# Altium integrated library Renesas Microcontroller H8S.IntLib: 670 symbols (part 63 of 70)
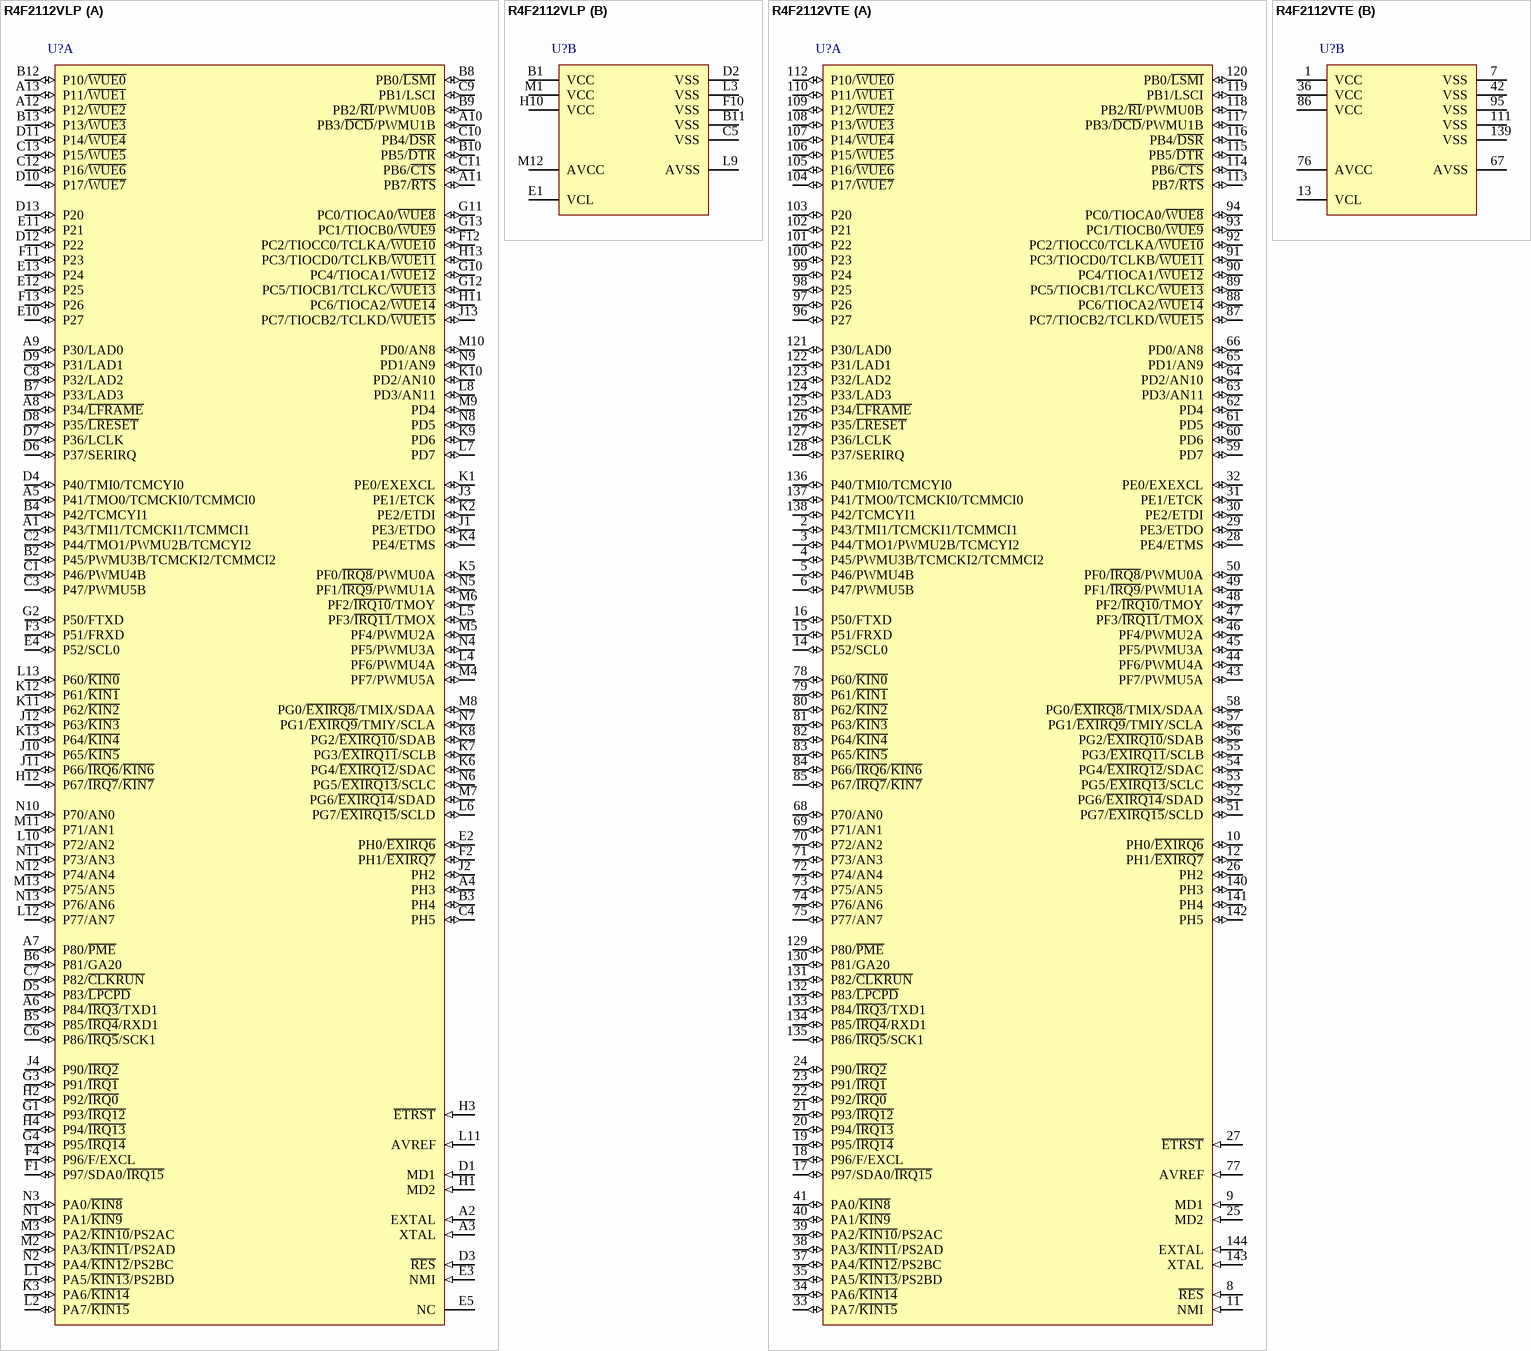
[diagram p276: symbols R4F2112VLP to R4F2112VTE]

## R4F2112VTE
designator U?
Flash memory H8S/2100 Series, 2112 Group MCU, 96K ROM, 4K RAM, TFP-144V Pkg; Published: 28-Aug-2009; DatasheetVersion: Rev.2.00, Sep-2009; PackageVersion: Sep-2005; PackageReference: PTQP0144LC-A; Publisher: Altium Limited; PackageDescription: 144-Pin Plastic Thin Quad Flat Pack, 16 x 16 mm Body, 0.4 mm Pitch; Code_JEITA: P-TQFP144-16x16-0.40; ComponentLink1Description: Manufacturer Link; ComponentLink1URL: http://sg.renesas.com/fmwk.jsp?cnt=h8s_family_landing.jsp&fp=/products/mpumcu/h8s_family/; ComponentLink2Description: Datasheet; ComponentLink2URL: http://documentation.renesas.com/eng/products/mpumcu/rej09b0451_h8s2112hm.pdf; ComponentLink3Description: Packaging Specification; ComponentLink3URL: http://sg.renesas.com/media/products/common_info/package/pdf/ic/code/ptqp0144lc_a.pdf
footprint PTQP0144LC-A_N (Thin QFP, 144-Leads, Body 16x16mm, Pitch 0.4mm, IPC Medium Density)
footprint PTQP0144LC-A_L (Thin QFP, 144-Leads, Body 16x16mm, Pitch 0.4mm, IPC High Density)
footprint PTQP0144LC-A_M (Thin QFP, 144-Leads, Body 16x16mm, Pitch 0.4mm, IPC Low Density)
part A pins: 2 P43/TMI1/TCMCKI1/TCMMCI1 (io), 3 P44/TMO1/PWMU2B/TCMCYI2 (io), 4 P45/PWMU3B/TCMCKI2/TCMMCI2 (io), 5 P46/PWMU4B (io), 6 P47/PWMU5B (io), 8 ~{RES} (in), 9 MD1 (in), 10 PH0/~{EXIRQ6} (io), 11 NMI (in), 12 PH1/~{EXIRQ7} (io), 14 P52/SCL0 (io), 15 P51/FRXD (io), 16 P50/FTXD (io), 17 P97/SDA0/~{IRQ15} (io), 18 P96/F/EXCL (io), 19 P95/~{IRQ14} (io), 20 P94/~{IRQ13} (io), 21 P93/~{IRQ12} (io), 22 P92/~{IRQ0} (io), 23 P91/~{IRQ1} (io), 24 P90/~{IRQ2} (io), 25 MD2 (in), 26 PH2 (io), 27 ~{ETRST} (in), 28 PE4/ETMS (io), 29 PE3/ETDO (io), 30 PE2/ETDI (io), 31 PE1/ETCK (io), 32 PE0/EXEXCL (io), 33 PA7/~{KIN15} (io), 34 PA6/~{KIN14} (io), 35 PA5/~{KIN13}/PS2BD (io), 37 PA4/~{KIN12}/PS2BC (io), 38 PA3/~{KIN11}/PS2AD (io), 39 PA2/~{KIN10}/PS2AC (io), 40 PA1/~{KIN9} (io), 41 PA0/~{KIN8} (io), 43 PF7/PWMU5A (io), 44 PF6/PWMU4A (io), 45 PF5/PWMU3A (io), 46 PF4/PWMU2A (io), 47 PF3/~{IRQ11}/TMOX (io), 48 PF2/~{IRQ10}/TMOY (io), 49 PF1/~{IRQ9}/PWMU1A (io), 50 PF0/~{IRQ8}/PWMU0A (io), 51 PG7/~{EXIRQ15}/SCLD (io), 52 PG6/~{EXIRQ14}/SDAD (io), 53 PG5/~{EXIRQ13}/SCLC (io), 54 PG4/~{EXIRQ12}/SDAC (io), 55 PG3/~{EXIRQ11}/SCLB (io), 56 PG2/~{EXIRQ10}/SDAB (io), 57 PG1/~{EXIRQ9}/TMIY/SCLA (io), 58 PG0/~{EXIRQ8}/TMIX/SDAA (io), 59 PD7 (io), 60 PD6 (io), 61 PD5 (io), 62 PD4 (io), 63 PD3/AN11 (io), 64 PD2/AN10 (io), 65 PD1/AN9 (io), 66 PD0/AN8 (io), 68 P70/AN0 (io), 69 P71/AN1 (io), 70 P72/AN2 (io), 71 P73/AN3 (io), 72 P74/AN4 (io), 73 P75/AN5 (io), 74 P76/AN6 (io), 75 P77/AN7 (io), 77 AVREF (in), 78 P60/~{KIN0} (io), 79 P61/~{KIN1} (io), 80 P62/~{KIN2} (io), 81 P63/~{KIN3} (io), 82 P64/~{KIN4} (io), 83 P65/~{KIN5} (io), 84 P66/~{IRQ6}/~{KIN6} (io), 85 P67/~{IRQ7}/~{KIN7} (io), 87 PC7/TIOCB2/TCLKD/~{WUE15} (io), 88 PC6/TIOCA2/~{WUE14} (io), 89 PC5/TIOCB1/TCLKC/~{WUE13} (io), 90 PC4/TIOCA1/~{WUE12} (io), 91 PC3/TIOCD0/TCLKB/~{WUE11} (io), 92 PC2/TIOCC0/TCLKA/~{WUE10} (io), 93 PC1/TIOCB0/~{WUE9} (io), 94 PC0/TIOCA0/~{WUE8} (io), 96 P27 (io), 97 P26 (io), 98 P25 (io), 99 P24 (io), 100 P23 (io), 101 P22 (io), 102 P21 (io), 103 P20 (io), 104 P17/~{WUE7} (io), 105 P16/~{WUE6} (io), 106 P15/~{WUE5} (io), 107 P14/~{WUE4} (io), 108 P13/~{WUE3} (io), 109 P12/~{WUE2} (io), 110 P11/~{WUE1} (io), 112 P10/~{WUE0} (io), 113 PB7/~{RTS} (io), 114 PB6/~{CTS} (io), 115 PB5/~{DTR} (io), 116 PB4/~{DSR} (io), 117 PB3/~{DCD}/PWMU1B (io), 118 PB2/~{RI}/PWMU0B (io), 119 PB1/LSCI (io), 120 PB0/~{LSMI} (io), 121 P30/LAD0 (io), 122 P31/LAD1 (io), 123 P32/LAD2 (io), 124 P33/LAD3 (io), 125 P34/~{LFRAME} (io), 126 P35/~{LRESET} (io), 127 P36/LCLK (io), 128 P37/SERIRQ (io), 129 P80/~{PME} (io), 130 P81/GA20 (io), 131 P82/~{CLKRUN} (io), 132 P83/~{LPCPD} (io), 133 P84/~{IRQ3}/TXD1 (io), 134 P85/~{IRQ4}/RXD1 (io), 135 P86/~{IRQ5}/SCK1 (io), 136 P40/TMI0/TCMCYI0 (io), 137 P41/TMO0/TCMCKI0/TCMMCI0 (io), 138 P42/TCMCYI1 (io), 140 PH3 (io), 141 PH4 (io), 142 PH5 (io), 143 XTAL (in), 144 EXTAL (in)
part B pins: 1 VCC (power), 7 VSS (power), 13 VCL, 36 VCC (power), 42 VSS (power), 67 AVSS (power), 76 AVCC (power), 86 VCC (power), 95 VSS (power), 111 VSS (power), 139 VSS (power)

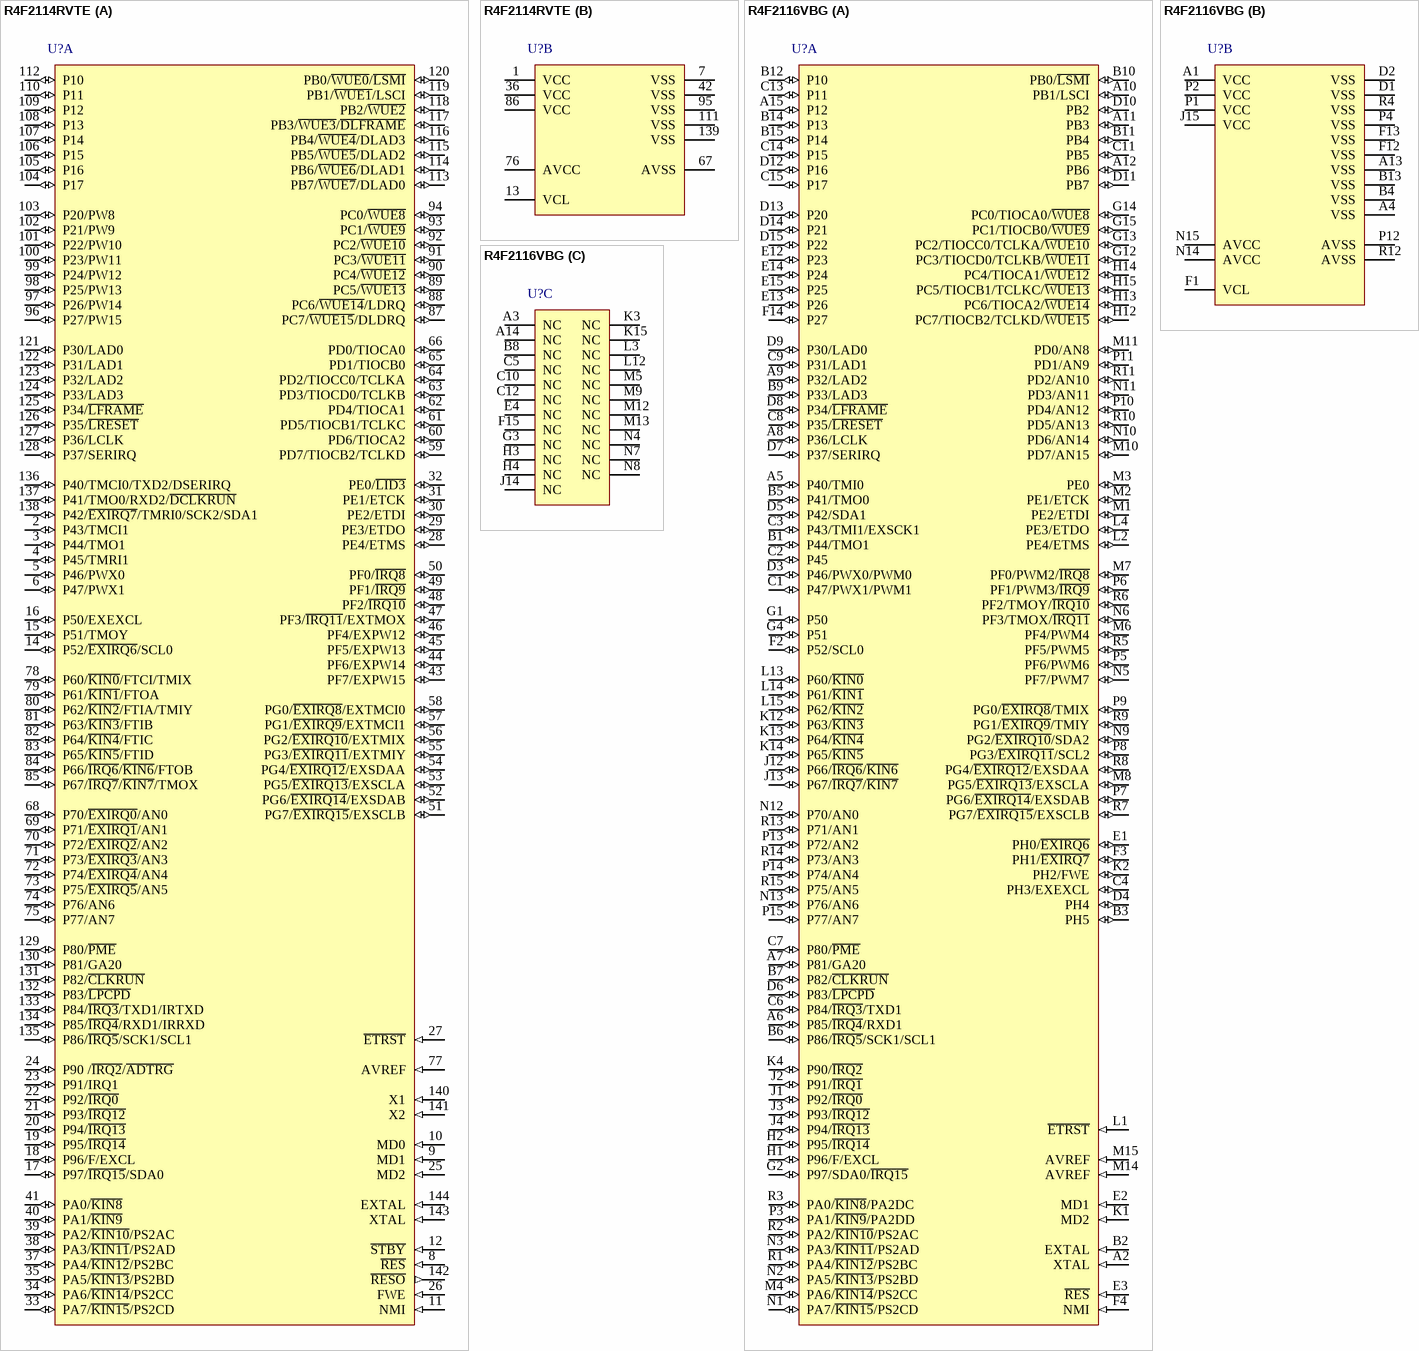
[diagram p217: symbols R4F2114RVTE to R4F2116VBG]

## R4F2114RVTE
designator U?
Flash memory H8S/2100 Series, 2114R Group MCU, 1M ROM, 8K RAM, TFP-144 Pkg; Published: 28-Aug-2009; DatasheetVersion: Rev.3.00, Jul-2005; PackageVersion: Sep-2005; PackageReference: PTQP0144LC-A; Publisher: Altium Limited; PackageDescription: 144-Pin Plastic Thin Quad Flat Pack, 16 x 16 mm Body, 0.4 mm Pitch; Code_JEITA: P-TQFP144-16x16-0.40; ComponentLink1Description: Manufacturer Link; ComponentLink1URL: http://sg.renesas.com/fmwk.jsp?cnt=h8s_family_landing.jsp&fp=/products/mpumcu/h8s_family/; ComponentLink2Description: Datasheet; ComponentLink2URL: http://documentation.renesas.com/eng/products/mpumcu/rej09b0098_h8s2114f.pdf; ComponentLink3Description: Packaging Specification; ComponentLink3URL: http://sg.renesas.com/media/products/common_info/package/pdf/ic/code/ptqp0144lc_a.pdf
footprint PTQP0144LC-A_N (Thin QFP, 144-Leads, Body 16x16mm, Pitch 0.4mm, IPC Medium Density)
footprint PTQP0144LC-A_L (Thin QFP, 144-Leads, Body 16x16mm, Pitch 0.4mm, IPC High Density)
footprint PTQP0144LC-A_M (Thin QFP, 144-Leads, Body 16x16mm, Pitch 0.4mm, IPC Low Density)
part A pins: 2 P43/TMCI1 (io), 3 P44/TMO1 (io), 4 P45/TMRI1 (io), 5 P46/PWX0 (io), 6 P47/PWX1 (io), 8 ~{RES} (in), 9 MD1 (in), 10 MD0 (in), 11 NMI (in), 12 ~{STBY} (in), 14 P52/~{EXIRQ6}/SCL0 (io), 15 P51/TMOY (io), 16 P50/EXEXCL (io), 17 P97/~{IRQ15}/SDA0 (io), 18 P96/F/EXCL (io), 19 P95/~{IRQ14} (io), 20 P94/~{IRQ13} (io), 21 P93/~{IRQ12} (io), 22 P92/~{IRQ0} (io), 23 P91/IRQ1 (io), 24 P90 /~{IRQ2}/~{ADTRG} (io), 25 MD2 (in), 26 FWE (in), 27 ~{ETRST} (in), 28 PE4/ETMS (io), 29 PE3/ETDO (io), 30 PE2/ETDI (io), 31 PE1/ETCK (io), 32 PE0/~{LID3} (io), 33 PA7/~{KIN15}/PS2CD (io), 34 PA6/~{KIN14}/PS2CC (io), 35 PA5/~{KIN13}/PS2BD (io), 37 PA4/~{KIN12}/PS2BC (io), 38 PA3/~{KIN11}/PS2AD (io), 39 PA2/~{KIN10}/PS2AC (io), 40 PA1/~{KIN9} (io), 41 PA0/~{KIN8} (io), 43 PF7/EXPW15 (io), 44 PF6/EXPW14 (io), 45 PF5/EXPW13 (io), 46 PF4/EXPW12 (io), 47 PF3/~{IRQ11}/EXTMOX (io), 48 PF2/~{IRQ10} (io), 49 PF1/~{IRQ9} (io), 50 PF0/~{IRQ8} (io), 51 PG7/~{EXIRQ15}/EXSCLB (io), 52 PG6/~{EXIRQ14}/EXSDAB (io), 53 PG5/~{EXIRQ13}/EXSCLA (io), 54 PG4/~{EXIRQ12}/EXSDAA (io), 55 PG3/~{EXIRQ11}/EXTMIY (io), 56 PG2/~{EXIRQ10}/EXTMIX (io), 57 PG1/~{EXIRQ9}/EXTMCI1 (io), 58 PG0/~{EXIRQ8}/EXTMCI0 (io), 59 PD7/TIOCB2/TCLKD (io), 60 PD6/TIOCA2 (io), 61 PD5/TIOCB1/TCLKC (io), 62 PD4/TIOCA1 (io), 63 PD3/TIOCD0/TCLKB (io), 64 PD2/TIOCC0/TCLKA (io), 65 PD1/TIOCB0 (io), 66 PD0/TIOCA0 (io), 68 P70/~{EXIRQ0}/AN0 (io), 69 P71/~{EXIRQ1}/AN1 (io), 70 P72/~{EXIRQ2}/AN2 (io), 71 P73/~{EXIRQ3}/AN3 (io), 72 P74/~{EXIRQ4}/AN4 (io), 73 P75/~{EXIRQ5}/AN5 (io), 74 P76/AN6 (io), 75 P77/AN7 (io), 77 AVREF (in), 78 P60/~{KIN0}/FTCI/TMIX (io), 79 P61/~{KIN1}/FTOA (io), 80 P62/~{KIN2}/FTIA/TMIY (io), 81 P63/~{KIN3}/FTIB (io), 82 P64/~{KIN4}/FTIC (io), 83 P65/~{KIN5}/FTID (io), 84 P66/~{IRQ6}/~{KIN6}/FTOB (io), 85 P67/~{IRQ7}/~{KIN7}/TMOX (io), 87 PC7/~{WUE15}/DLDRQ (io), 88 PC6/~{WUE14}/LDRQ (io), 89 PC5/~{WUE13} (io), 90 PC4/~{WUE12} (io), 91 PC3/~{WUE11} (io), 92 PC2/~{WUE10} (io), 93 PC1/~{WUE9} (io), 94 PC0/~{WUE8} (io), 96 P27/PW15 (io), 97 P26/PW14 (io), 98 P25/PW13 (io), 99 P24/PW12 (io), 100 P23/PW11 (io), 101 P22/PW10 (io), 102 P21/PW9 (io), 103 P20/PW8 (io), 104 P17 (io), 105 P16 (io), 106 P15 (io), 107 P14 (io), 108 P13 (io), 109 P12 (io), 110 P11 (io), 112 P10 (io), 113 PB7/~{WUE7}/DLAD0 (io), 114 PB6/~{WUE6}/DLAD1 (io), 115 PB5/~{WUE5}/DLAD2 (io), 116 PB4/~{WUE4}/DLAD3 (io), 117 PB3/~{WUE3}/~{DLFRAME} (io), 118 PB2/~{WUE2} (io), 119 PB1/~{WUE1}/LSCI (io), 120 PB0/~{WUE0}/~{LSMI} (io), 121 P30/LAD0 (io), 122 P31/LAD1 (io), 123 P32/LAD2 (io), 124 P33/LAD3 (io), 125 P34/~{LFRAME} (io), 126 P35/~{LRESET} (io), 127 P36/LCLK (io), 128 P37/SERIRQ (io), 129 P80/~{PME} (io), 130 P81/GA20 (io), 131 P82/~{CLKRUN} (io), 132 P83/~{LPCPD} (io), 133 P84/~{IRQ3}/TXD1/IRTXD (io), 134 P85/~{IRQ4}/RXD1/IRRXD (io), 135 P86/~{IRQ5}/SCK1/SCL1 (io), 136 P40/TMCI0/TXD2/DSERIRQ (io), 137 P41/TMO0/RXD2/~{DCLKRUN} (io), 138 P42/~{EXIRQ7}/TMRI0/SCK2/SDA1 (io), 140 X1 (in), 141 X2 (in), 142 ~{RESO} (out), 143 XTAL (in), 144 EXTAL (in)
part B pins: 1 VCC (power), 7 VSS (power), 13 VCL, 36 VCC (power), 42 VSS (power), 67 AVSS (power), 76 AVCC (power), 86 VCC (power), 95 VSS (power), 111 VSS (power), 139 VSS (power)

## R4F2116VBG
designator U?
Flash memory H8S/2100 Series, 2116 Group MCU, 128K ROM, 8K RAM, BP-176V Pkg; Published: 28-Aug-2009; DatasheetVersion: Rev.1.00, Mar-2006; PackageVersion: Apr-2006; PackageReference: PLBG0176GA-A; Publisher: Altium Limited; PackageDescription: 176-Ball Plastic Low Profile Fine-Pitch BGA, 13 x 13 mm Body, 0.8 mm Pitch; Code_JEITA: P-LFBGA176-13x13-0.80; ComponentLink1Description: Manufacturer Link; ComponentLink1URL: http://sg.renesas.com/fmwk.jsp?cnt=h8s_family_landing.jsp&fp=/products/mpumcu/h8s_family/; ComponentLink2Description: Datasheet; ComponentLink2URL: http://documentation.renesas.com/eng/products/mpumcu/rej09b0255_h8s2116hm.pdf; ComponentLink3Description: Packaging Specification; ComponentLink3URL: http://sg.renesas.com/media/products/common_info/package/pdf/ic/code/plbg0176ga_a.pdf
footprint PLBG0176GA-A (BGA, 176-Leads, Body 13x13mm, Pitch 0.8mm)
part A pins: A2 XTAL (in), A5 P40/TMI0 (io), A6 P85/~{IRQ4}/RXD1 (io), A7 P81/GA20 (io), A8 P36/LCLK (io), A9 P32/LAD2 (io), A10 PB1/LSCI (io), A11 PB3 (io), A12 PB6 (io), A15 P12 (io), B1 P44/TMO1 (io), B2 EXTAL (in), B3 PH5 (io), B5 P41/TMO0 (io), B6 P86/~{IRQ5}/SCK1/SCL1 (io), B7 P82/~{CLKRUN} (io), B9 P33/LAD3 (io), B10 PB0/~{LSMI} (io), B11 PB4 (io), B12 P10 (io), B14 P13 (io), B15 P14 (io), C1 P47/PWX1/PWM1 (io), C2 P45 (io), C3 P43/TMI1/EXSCK1 (io), C4 PH3/EXEXCL (io), C6 P84/~{IRQ3}/TXD1 (io), C7 P80/~{PME} (io), C8 P35/~{LRESET} (io), C9 P31/LAD1 (io), C11 PB5 (io), C13 P11 (io), C14 P15 (io), C15 P17 (io), D3 P46/PWX0/PWM0 (io), D4 PH4 (io), D5 P42/SDA1 (io), D6 P83/~{LPCPD} (io), D7 P37/SERIRQ (io), D8 P34/~{LFRAME} (io), D9 P30/LAD0 (io), D10 PB2 (io), D11 PB7 (io), D12 P16 (io), D13 P20 (io), D14 P21 (io), D15 P22 (io), E1 PH0/~{EXIRQ6} (io), E2 MD1 (in), E3 ~{RES} (in), E12 P23 (io), E13 P26 (io), E14 P24 (io), E15 P25 (io), F2 P52/SCL0 (io), F3 PH1/~{EXIRQ7} (io), F4 NMI (in), F14 P27 (io), G1 P50 (io), G2 P97/SDA0/~{IRQ15} (io), G4 P51 (io), G12 PC3/TIOCD0/TCLKB/~{WUE11} (io), G13 PC2/TIOCC0/TCLKA/~{WUE10} (io), G14 PC0/TIOCA0/~{WUE8} (io), G15 PC1/TIOCB0/~{WUE9} (io), H1 P96/F/EXCL (io), H2 P95/~{IRQ14} (io), H12 PC7/TIOCB2/TCLKD/~{WUE15} (io), H13 PC6/TIOCA2/~{WUE14} (io), H14 PC4/TIOCA1/~{WUE12} (io), H15 PC5/TIOCB1/TCLKC/~{WUE13} (io), J1 P92/~{IRQ0} (io), J2 P91/~{IRQ1} (io), J3 P93/~{IRQ12} (io), J4 P94/~{IRQ13} (io), J12 P66/~{IRQ6}/~{KIN6} (io), J13 P67/~{IRQ7}/~{KIN7} (io), K1 MD2 (in), K2 PH2/FWE (io), K4 P90/~{IRQ2} (io), K12 P63/~{KIN3} (io), K13 P64/~{KIN4} (io), K14 P65/~{KIN5} (io), L1 ~{ETRST} (in), L2 PE4/ETMS (io), L4 PE3/ETDO (io), L13 P60/~{KIN0} (io), L14 P61/~{KIN1} (io), L15 P62/~{KIN2} (io), M1 PE2/ETDI (io), M2 PE1/ETCK (io), M3 PE0 (io), M4 PA6/~{KIN14}/PS2CC (io), M6 PF4/PWM4 (io), M7 PF0/PWM2/~{IRQ8} (io), M8 PG5/~{EXIRQ13}/EXSCLA (io), M10 PD7/AN15 (io), M11 PD0/AN8 (io), M14 AVREF (in), M15 AVREF (in), N1 PA7/~{KIN15}/PS2CD (io), N2 PA5/~{KIN13}/PS2BD (io), N3 PA3/~{KIN11}/PS2AD (io), N5 PF7/PWM7 (io), N6 PF3/TMOX/~{IRQ11} (io), N9 PG2/~{EXIRQ10}/SDA2 (io), N10 PD6/AN14 (io), N11 PD3/AN11 (io), N12 P70/AN0 (io), N13 P76/AN6 (io), P3 PA1/~{KIN9}/PA2DD (io), P5 PF6/PWM6 (io), P6 PF1/PWM3/~{IRQ9} (io), P7 PG6/~{EXIRQ14}/EXSDAB (io), P8 PG3/~{EXIRQ11}/SCL2 (io), P9 PG0/~{EXIRQ8}/TMIX (io), P10 PD4/AN12 (io), P11 PD1/AN9 (io), P13 P72/AN2 (io), P14 P74/AN4 (io), P15 P77/AN7 (io), R1 PA4/~{KIN12}/PS2BC (io), R2 PA2/~{KIN10}/PS2AC (io), R3 PA0/~{KIN8}/PA2DC (io), R5 PF5/PWM5 (io), R6 PF2/TMOY/~{IRQ10} (io), R7 PG7/~{EXIRQ15}/EXSCLB (io), R8 PG4/~{EXIRQ12}/EXSDAA (io), R9 PG1/~{EXIRQ9}/TMIY (io), R10 PD5/AN13 (io), R11 PD2/AN10 (io), R13 P71/AN1 (io), R14 P73/AN3 (io), R15 P75/AN5 (io)
part B pins: A1 VCC (power), A4 VSS (power), A13 VSS (power), B4 VSS (power), B13 VSS (power), D1 VSS (power), D2 VSS (power), F1 VCL, F12 VSS (power), F13 VSS (power), J15 VCC (power), N14 AVCC (power), N15 AVCC (power), P1 VCC (power), P2 VCC (power), P4 VSS (power), P12 AVSS (power), R4 VSS (power), R12 AVSS (power)
part C pins: A3 NC, A14 NC, B8 NC, C5 NC, C10 NC, C12 NC, E4 NC, F15 NC, G3 NC, H3 NC, H4 NC, J14 NC, K3 NC, K15 NC, L3 NC, L12 NC, M5 NC, M9 NC, M12 NC, M13 NC, N4 NC, N7 NC, N8 NC

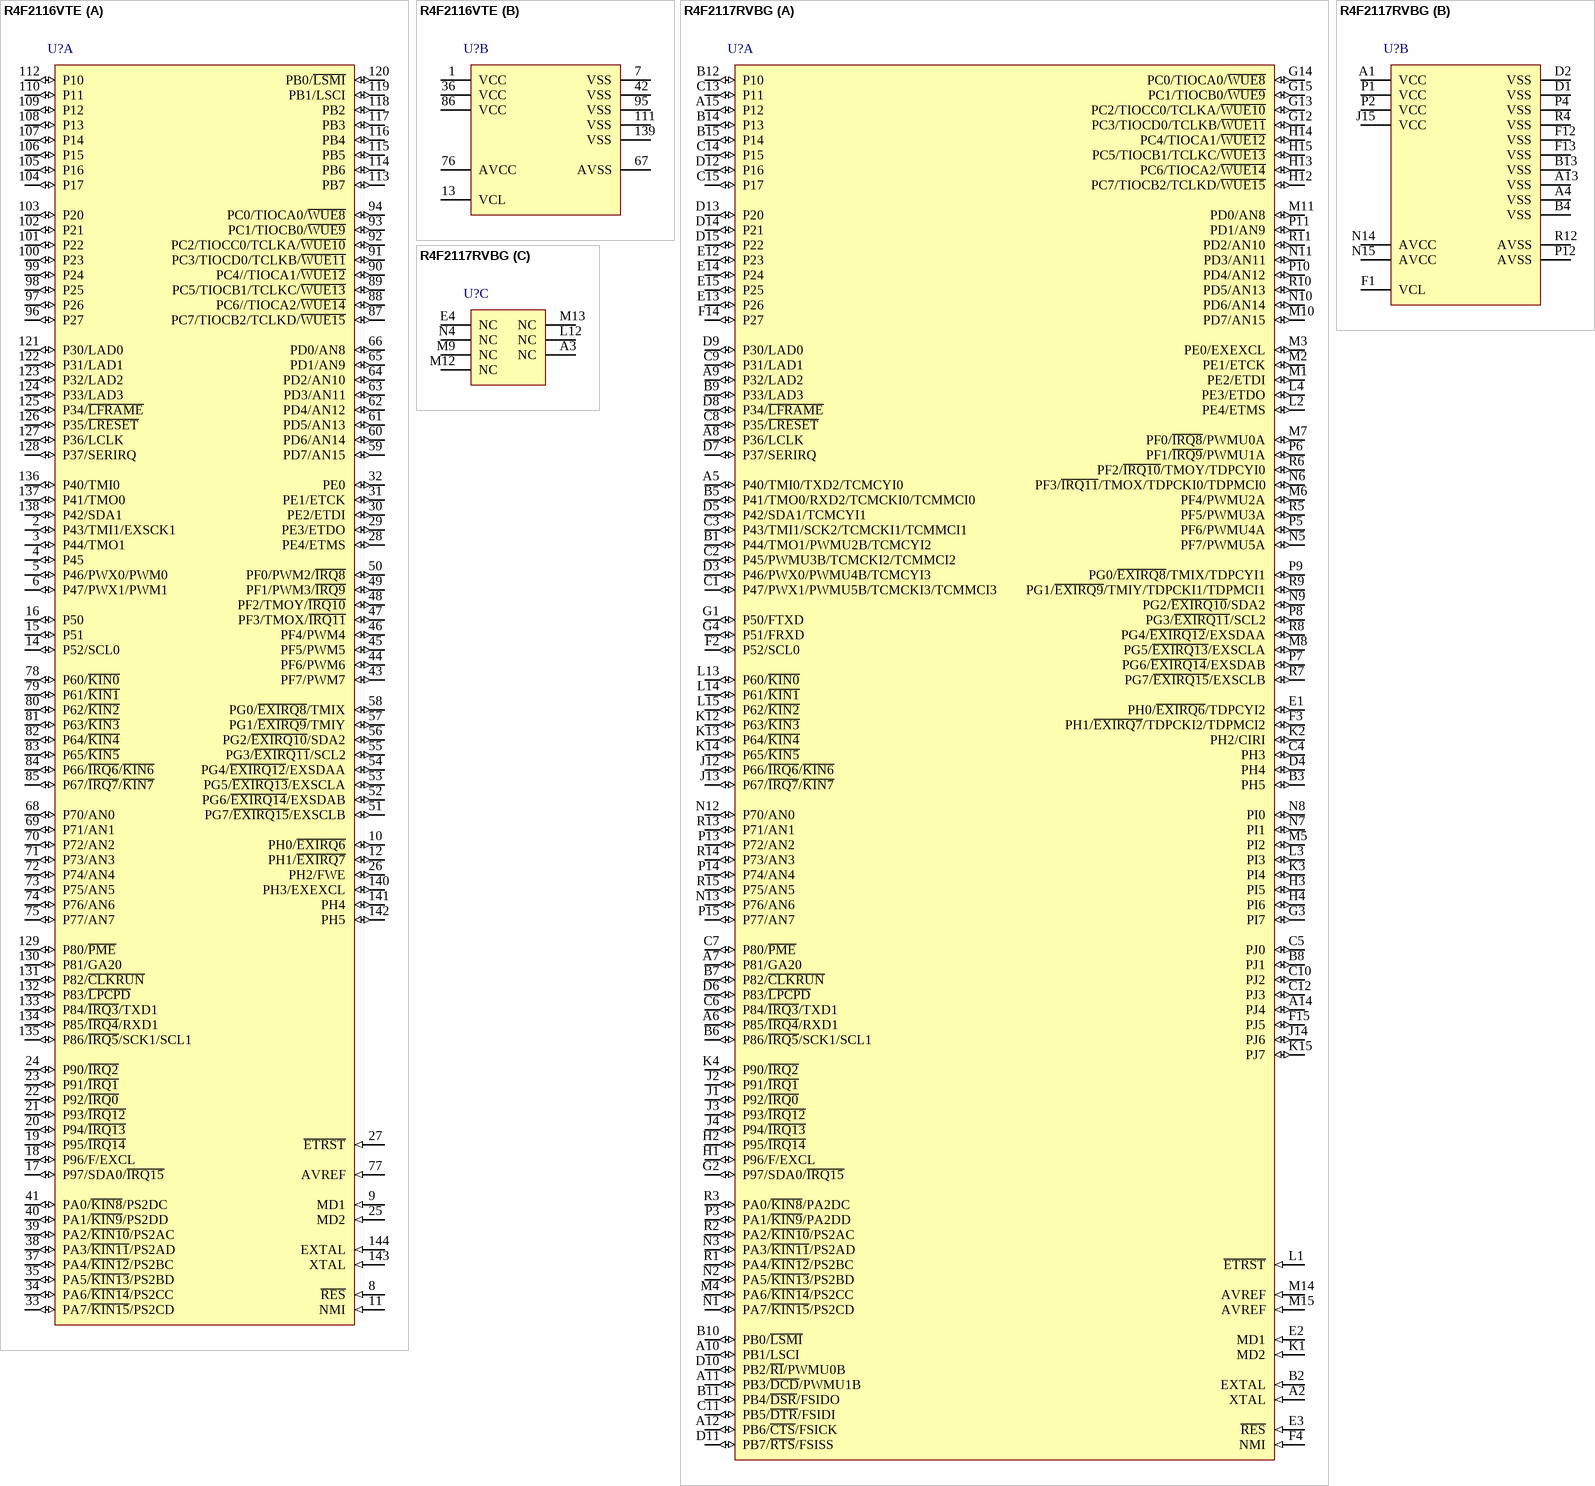
[diagram p218: symbols R4F2116VTE to R4F2117RVBG]

## R4F2116VTE
designator U?
Flash memory H8S/2100 Series, 2116 Group MCU, 128K ROM, 8K RAM, TFP-144V Pkg; Published: 28-Aug-2009; DatasheetVersion: Rev.1.00, Mar-2006; PackageVersion: Sep-2005; PackageReference: PTQP0144LC-A; Publisher: Altium Limited; PackageDescription: 144-Pin Plastic Thin Quad Flat Pack, 16 x 16 mm Body, 0.4 mm Pitch; Code_JEITA: P-TQFP144-16x16-0.40; ComponentLink1Description: Manufacturer Link; ComponentLink1URL: http://sg.renesas.com/fmwk.jsp?cnt=h8s_family_landing.jsp&fp=/products/mpumcu/h8s_family/; ComponentLink2Description: Datasheet; ComponentLink2URL: http://documentation.renesas.com/eng/products/mpumcu/rej09b0255_h8s2116hm.pdf; ComponentLink3Description: Packaging Specification; ComponentLink3URL: http://sg.renesas.com/media/products/common_info/package/pdf/ic/code/ptqp0144lc_a.pdf
footprint PTQP0144LC-A_N (Thin QFP, 144-Leads, Body 16x16mm, Pitch 0.4mm, IPC Medium Density)
footprint PTQP0144LC-A_L (Thin QFP, 144-Leads, Body 16x16mm, Pitch 0.4mm, IPC High Density)
footprint PTQP0144LC-A_M (Thin QFP, 144-Leads, Body 16x16mm, Pitch 0.4mm, IPC Low Density)
part A pins: 2 P43/TMI1/EXSCK1 (io), 3 P44/TMO1 (io), 4 P45 (io), 5 P46/PWX0/PWM0 (io), 6 P47/PWX1/PWM1 (io), 8 ~{RES} (in), 9 MD1 (in), 10 PH0/~{EXIRQ6} (io), 11 NMI (in), 12 PH1/~{EXIRQ7} (io), 14 P52/SCL0 (io), 15 P51 (io), 16 P50 (io), 17 P97/SDA0/~{IRQ15} (io), 18 P96/F/EXCL (io), 19 P95/~{IRQ14} (io), 20 P94/~{IRQ13} (io), 21 P93/~{IRQ12} (io), 22 P92/~{IRQ0} (io), 23 P91/~{IRQ1} (io), 24 P90/~{IRQ2} (io), 25 MD2 (in), 26 PH2/FWE (io), 27 ~{ETRST} (in), 28 PE4/ETMS (io), 29 PE3/ETDO (io), 30 PE2/ETDI (io), 31 PE1/ETCK (io), 32 PE0 (io), 33 PA7/~{KIN15}/PS2CD (io), 34 PA6/~{KIN14}/PS2CC (io), 35 PA5/~{KIN13}/PS2BD (io), 37 PA4/~{KIN12}/PS2BC (io), 38 PA3/~{KIN11}/PS2AD (io), 39 PA2/~{KIN10}/PS2AC (io), 40 PA1/~{KIN9}/PS2DD (io), 41 PA0/~{KIN8}/PS2DC (io), 43 PF7/PWM7 (io), 44 PF6/PWM6 (io), 45 PF5/PWM5 (io), 46 PF4/PWM4 (io), 47 PF3/TMOX/~{IRQ11} (io), 48 PF2/TMOY/~{IRQ10} (io), 49 PF1/PWM3/~{IRQ9} (io), 50 PF0/PWM2/~{IRQ8} (io), 51 PG7/~{EXIRQ15}/EXSCLB (io), 52 PG6/~{EXIRQ14}/EXSDAB (io), 53 PG5/~{EXIRQ13}/EXSCLA (io), 54 PG4/~{EXIRQ12}/EXSDAA (io), 55 PG3/~{EXIRQ11}/SCL2 (io), 56 PG2/~{EXIRQ10}/SDA2 (io), 57 PG1/~{EXIRQ9}/TMIY (io), 58 PG0/~{EXIRQ8}/TMIX (io), 59 PD7/AN15 (io), 60 PD6/AN14 (io), 61 PD5/AN13 (io), 62 PD4/AN12 (io), 63 PD3/AN11 (io), 64 PD2/AN10 (io), 65 PD1/AN9 (io), 66 PD0/AN8 (io), 68 P70/AN0 (io), 69 P71/AN1 (io), 70 P72/AN2 (io), 71 P73/AN3 (io), 72 P74/AN4 (io), 73 P75/AN5 (io), 74 P76/AN6 (io), 75 P77/AN7 (io), 77 AVREF (in), 78 P60/~{KIN0} (io), 79 P61/~{KIN1} (io), 80 P62/~{KIN2} (io), 81 P63/~{KIN3} (io), 82 P64/~{KIN4} (io), 83 P65/~{KIN5} (io), 84 P66/~{IRQ6}/~{KIN6} (io), 85 P67/~{IRQ7}/~{KIN7} (io), 87 PC7/TIOCB2/TCLKD/~{WUE15} (io), 88 PC6//TIOCA2/~{WUE14} (io), 89 PC5/TIOCB1/TCLKC/~{WUE13} (io), 90 PC4//TIOCA1/~{WUE12} (io), 91 PC3/TIOCD0/TCLKB/~{WUE11} (io), 92 PC2/TIOCC0/TCLKA/~{WUE10} (io), 93 PC1/TIOCB0/~{WUE9} (io), 94 PC0/TIOCA0/~{WUE8} (io), 96 P27 (io), 97 P26 (io), 98 P25 (io), 99 P24 (io), 100 P23 (io), 101 P22 (io), 102 P21 (io), 103 P20 (io), 104 P17 (io), 105 P16 (io), 106 P15 (io), 107 P14 (io), 108 P13 (io), 109 P12 (io), 110 P11 (io), 112 P10 (io), 113 PB7 (io), 114 PB6 (io), 115 PB5 (io), 116 PB4 (io), 117 PB3 (io), 118 PB2 (io), 119 PB1/LSCI (io), 120 PB0/~{LSMI} (io), 121 P30/LAD0 (io), 122 P31/LAD1 (io), 123 P32/LAD2 (io), 124 P33/LAD3 (io), 125 P34/~{LFRAME} (io), 126 P35/~{LRESET} (io), 127 P36/LCLK (io), 128 P37/SERIRQ (io), 129 P80/~{PME} (io), 130 P81/GA20 (io), 131 P82/~{CLKRUN} (io), 132 P83/~{LPCPD} (io), 133 P84/~{IRQ3}/TXD1 (io), 134 P85/~{IRQ4}/RXD1 (io), 135 P86/~{IRQ5}/SCK1/SCL1 (io), 136 P40/TMI0 (io), 137 P41/TMO0 (io), 138 P42/SDA1 (io), 140 PH3/EXEXCL (io), 141 PH4 (io), 142 PH5 (io), 143 XTAL (in), 144 EXTAL (in)
part B pins: 1 VCC (power), 7 VSS (power), 13 VCL, 36 VCC (power), 42 VSS (power), 67 AVSS (power), 76 AVCC (power), 86 VCC (power), 95 VSS (power), 111 VSS (power), 139 VSS (power)

## R4F2117RVBG
designator U?
Flash memory H8S/2100 Series, 2117R Group MCU, 160K ROM, 8K RAM, BP-176V Pkg; Published: 28-Aug-2009; DatasheetVersion: Rev.2.00, Sep-2009; PackageVersion: Apr-2006; PackageReference: PLBG0176GA-A; Publisher: Altium Limited; PackageDescription: 176-Ball Plastic Low Profile Fine-Pitch BGA, 13 x 13 mm Body, 0.8 mm Pitch; Code_JEITA: P-LFBGA176-13x13-0.80; ComponentLink1Description: Manufacturer Link; ComponentLink1URL: http://sg.renesas.com/fmwk.jsp?cnt=h8s_family_landing.jsp&fp=/products/mpumcu/h8s_family/; ComponentLink2Description: Datasheet; ComponentLink2URL: http://documentation.renesas.com/eng/products/mpumcu/rej09b0452_h8s2117rhm.pdf; ComponentLink3Description: Packaging Specification; ComponentLink3URL: http://sg.renesas.com/media/products/common_info/package/pdf/ic/code/plbg0176ga_a.pdf
footprint PLBG0176GA-A (BGA, 176-Leads, Body 13x13mm, Pitch 0.8mm)
part A pins: A2 XTAL (in), A5 P40/TMI0/TXD2/TCMCYI0 (io), A6 P85/~{IRQ4}/RXD1 (io), A7 P81/GA20 (io), A8 P36/LCLK (io), A9 P32/LAD2 (io), A10 PB1/LSCI (io), A11 PB3/~{DCD}/PWMU1B (io), A12 PB6/~{CTS}/FSICK (io), A14 PJ4 (io), A15 P12 (io), B1 P44/TMO1/PWMU2B/TCMCYI2 (io), B2 EXTAL (in), B3 PH5 (io), B5 P41/TMO0/RXD2/TCMCKI0/TCMMCI0 (io), B6 P86/~{IRQ5}/SCK1/SCL1 (io), B7 P82/~{CLKRUN} (io), B8 PJ1 (io), B9 P33/LAD3 (io), B10 PB0/~{LSMI} (io), B11 PB4/~{DSR}/FSIDO (io), B12 P10 (io), B14 P13 (io), B15 P14 (io), C1 P47/PWX1/PWMU5B/TCMCKI3/TCMMCI3 (io), C2 P45/PWMU3B/TCMCKI2/TCMMCI2 (io), C3 P43/TMI1/SCK2/TCMCKI1/TCMMCI1 (io), C4 PH3 (io), C5 PJ0 (io), C6 P84/~{IRQ3}/TXD1 (io), C7 P80/~{PME} (io), C8 P35/~{LRESET} (io), C9 P31/LAD1 (io), C10 PJ2 (io), C11 PB5/~{DTR}/FSIDI (io), C12 PJ3 (io), C13 P11 (io), C14 P15 (io), C15 P17 (io), D3 P46/PWX0/PWMU4B/TCMCYI3 (io), D4 PH4 (io), D5 P42/SDA1/TCMCYI1 (io), D6 P83/~{LPCPD} (io), D7 P37/SERIRQ (io), D8 P34/~{LFRAME} (io), D9 P30/LAD0 (io), D10 PB2/~{RI}/PWMU0B (io), D11 PB7/~{RTS}/FSISS (io), D12 P16 (io), D13 P20 (io), D14 P21 (io), D15 P22 (io), E1 PH0/~{EXIRQ6}/TDPCYI2 (io), E2 MD1 (in), E3 ~{RES} (in), E12 P23 (io), E13 P26 (io), E14 P24 (io), E15 P25 (io), F2 P52/SCL0 (io), F3 PH1/~{EXIRQ7}/TDPCKI2/TDPMCI2 (io), F4 NMI (in), F14 P27 (io), F15 PJ5 (io), G1 P50/FTXD (io), G2 P97/SDA0/~{IRQ15} (io), G3 PI7 (io), G4 P51/FRXD (io), G12 PC3/TIOCD0/TCLKB/~{WUE11} (io), G13 PC2/TIOCC0/TCLKA/~{WUE10} (io), G14 PC0/TIOCA0/~{WUE8} (io), G15 PC1/TIOCB0/~{WUE9} (io), H1 P96/F/EXCL (io), H2 P95/~{IRQ14} (io), H3 PI5 (io), H4 PI6 (io), H12 PC7/TIOCB2/TCLKD/~{WUE15} (io), H13 PC6/TIOCA2/~{WUE14} (io), H14 PC4/TIOCA1/~{WUE12} (io), H15 PC5/TIOCB1/TCLKC/~{WUE13} (io), J1 P92/~{IRQ0} (io), J2 P91/~{IRQ1} (io), J3 P93/~{IRQ12} (io), J4 P94/~{IRQ13} (io), J12 P66/~{IRQ6}/~{KIN6} (io), J13 P67/~{IRQ7}/~{KIN7} (io), J14 PJ6 (io), K1 MD2 (in), K2 PH2/CIRI (io), K3 PI4 (io), K4 P90/~{IRQ2} (io), K12 P63/~{KIN3} (io), K13 P64/~{KIN4} (io), K14 P65/~{KIN5} (io), K15 PJ7 (io), L1 ~{ETRST} (in), L2 PE4/ETMS (io), L3 PI3 (io), L4 PE3/ETDO (io), L13 P60/~{KIN0} (io), L14 P61/~{KIN1} (io), L15 P62/~{KIN2} (io), M1 PE2/ETDI (io), M2 PE1/ETCK (io), M3 PE0/EXEXCL (io), M4 PA6/~{KIN14}/PS2CC (io), M5 PI2 (io), M6 PF4/PWMU2A (io), M7 PF0/~{IRQ8}/PWMU0A (io), M8 PG5/~{EXIRQ13}/EXSCLA (io), M10 PD7/AN15 (io), M11 PD0/AN8 (io), M14 AVREF (in), M15 AVREF (in), N1 PA7/~{KIN15}/PS2CD (io), N2 PA5/~{KIN13}/PS2BD (io), N3 PA3/~{KIN11}/PS2AD (io), N5 PF7/PWMU5A (io), N6 PF3/~{IRQ11}/TMOX/TDPCKI0/TDPMCI0 (io), N7 PI1 (io), N8 PI0 (io), N9 PG2/~{EXIRQ10}/SDA2 (io), N10 PD6/AN14 (io), N11 PD3/AN11 (io), N12 P70/AN0 (io), N13 P76/AN6 (io), P3 PA1/~{KIN9}/PA2DD (io), P5 PF6/PWMU4A (io), P6 PF1/~{IRQ9}/PWMU1A (io), P7 PG6/~{EXIRQ14}/EXSDAB (io), P8 PG3/~{EXIRQ11}/SCL2 (io), P9 PG0/~{EXIRQ8}/TMIX/TDPCYI1 (io), P10 PD4/AN12 (io), P11 PD1/AN9 (io), P13 P72/AN2 (io), P14 P74/AN4 (io), P15 P77/AN7 (io), R1 PA4/~{KIN12}/PS2BC (io), R2 PA2/~{KIN10}/PS2AC (io), R3 PA0/~{KIN8}/PA2DC (io), R5 PF5/PWMU3A (io), R6 PF2/~{IRQ10}/TMOY/TDPCYI0 (io), R7 PG7/~{EXIRQ15}/EXSCLB (io), R8 PG4/~{EXIRQ12}/EXSDAA (io), R9 PG1/~{EXIRQ9}/TMIY/TDPCKI1/TDPMCI1 (io), R10 PD5/AN13 (io), R11 PD2/AN10 (io), R13 P71/AN1 (io), R14 P73/AN3 (io), R15 P75/AN5 (io)
part B pins: A1 VCC (power), A4 VSS (power), A13 VSS (power), B4 VSS (power), B13 VSS (power), D1 VSS (power), D2 VSS (power), F1 VCL, F12 VSS (power), F13 VSS (power), J15 VCC (power), N14 AVCC (power), N15 AVCC (power), P1 VCC (power), P2 VCC (power), P4 VSS (power), P12 AVSS (power), R4 VSS (power), R12 AVSS (power)
part C pins: A3 NC, E4 NC, L12 NC, M9 NC, M12 NC, M13 NC, N4 NC

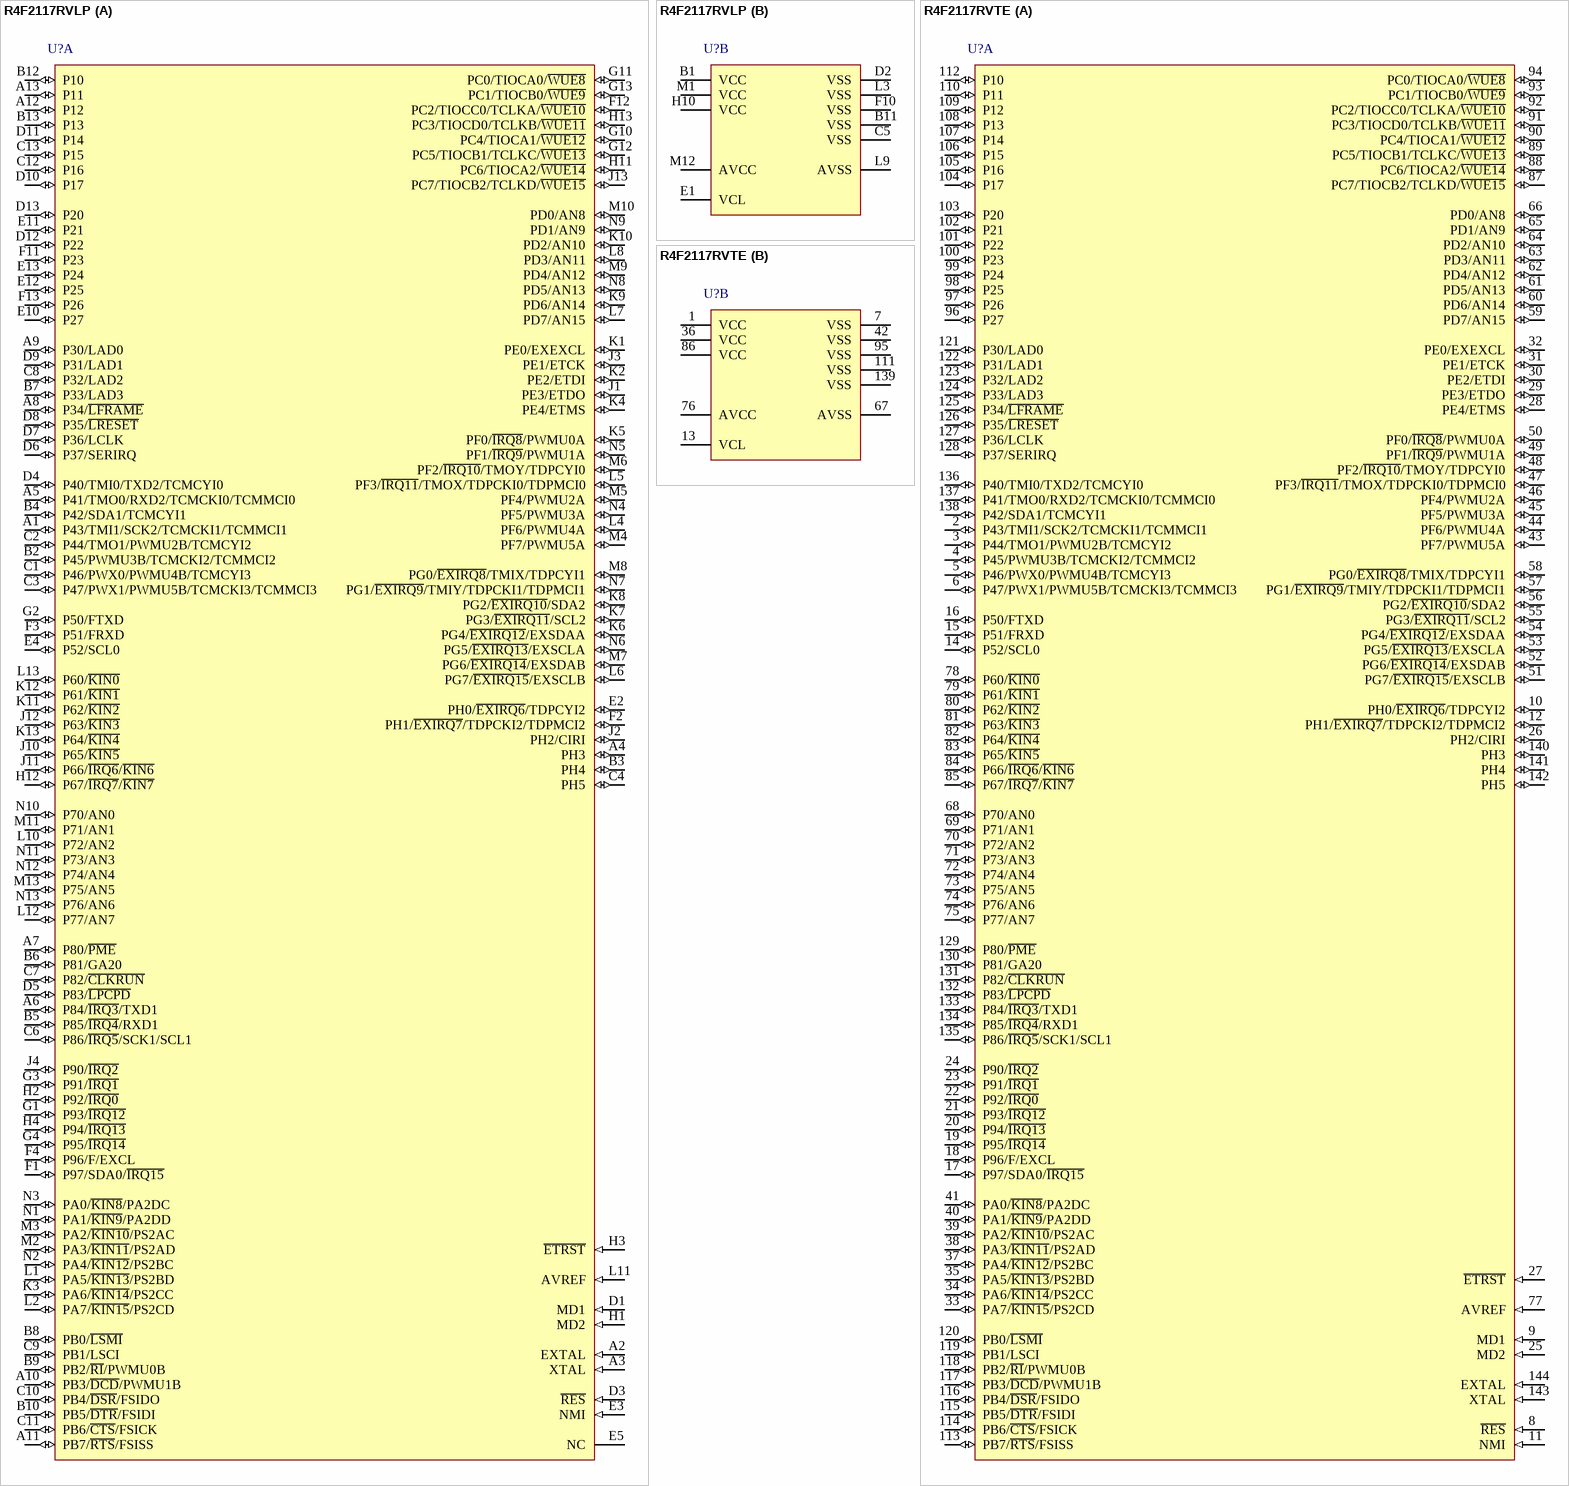
[diagram p219: symbols R4F2117RVLP to R4F2117RVTE]

## R4F2117RVLP
designator U?
Flash memory H8S/2100 Series, 2117R Group MCU, 160K ROM, 8K RAM, TLP-145V Pkg; Published: 28-Aug-2009; DatasheetVersion: Rev.2.00, Sep-2009; PackageVersion: Jun-2006; PackageReference: PTLG0145JB-A; Publisher: Altium Limited; PackageDescription: 145-Ball Plastic Thin Fine-Pitch BGA, 9 x 9 mm Body, 0.65 mm Pitch; Code_JEITA: P-TFLGA145-9x9-0.65; ComponentLink1Description: Manufacturer Link; ComponentLink1URL: http://sg.renesas.com/fmwk.jsp?cnt=h8s_family_landing.jsp&fp=/products/mpumcu/h8s_family/; ComponentLink2Description: Datasheet; ComponentLink2URL: http://documentation.renesas.com/eng/products/mpumcu/rej09b0452_h8s2117rhm.pdf; ComponentLink3Description: Packaging Specification; ComponentLink3URL: http://sg.renesas.com/media/products/common_info/package/pdf/ic/code/ptlg0145jb_a.pdf
footprint PTLG0145JB-A (BGA, 145-Leads, Body 9x9mm, Pitch 0.65mm)
part A pins: A1 P43/TMI1/SCK2/TCMCKI1/TCMMCI1 (io), A2 EXTAL (in), A3 XTAL (in), A4 PH3 (io), A5 P41/TMO0/RXD2/TCMCKI0/TCMMCI0 (io), A6 P84/~{IRQ3}/TXD1 (io), A7 P80/~{PME} (io), A8 P34/~{LFRAME} (io), A9 P30/LAD0 (io), A10 PB3/~{DCD}/PWMU1B (io), A11 PB7/~{RTS}/FSISS (io), A12 P12 (io), A13 P11 (io), B2 P45/PWMU3B/TCMCKI2/TCMMCI2 (io), B3 PH4 (io), B4 P42/SDA1/TCMCYI1 (io), B5 P85/~{IRQ4}/RXD1 (io), B6 P81/GA20 (io), B7 P33/LAD3 (io), B8 PB0/~{LSMI} (io), B9 PB2/~{RI}/PWMU0B (io), B10 PB5/~{DTR}/FSIDI (io), B12 P10 (io), B13 P13 (io), C1 P46/PWX0/PWMU4B/TCMCYI3 (io), C2 P44/TMO1/PWMU2B/TCMCYI2 (io), C3 P47/PWX1/PWMU5B/TCMCKI3/TCMMCI3 (io), C4 PH5 (io), C6 P86/~{IRQ5}/SCK1/SCL1 (io), C7 P82/~{CLKRUN} (io), C8 P32/LAD2 (io), C9 PB1/LSCI (io), C10 PB4/~{DSR}/FSIDO (io), C11 PB6/~{CTS}/FSICK (io), C12 P16 (io), C13 P15 (io), D1 MD1 (in), D3 ~{RES} (in), D4 P40/TMI0/TXD2/TCMCYI0 (io), D5 P83/~{LPCPD} (io), D6 P37/SERIRQ (io), D7 P36/LCLK (io), D8 P35/~{LRESET} (io), D9 P31/LAD1 (io), D10 P17 (io), D11 P14 (io), D12 P22 (io), D13 P20 (io), E2 PH0/~{EXIRQ6}/TDPCYI2 (io), E3 NMI (in), E4 P52/SCL0 (io), E5 NC, E10 P27 (io), E11 P21 (io), E12 P25 (io), E13 P24 (io), F1 P97/SDA0/~{IRQ15} (io), F2 PH1/~{EXIRQ7}/TDPCKI2/TDPMCI2 (io), F3 P51/FRXD (io), F4 P96/F/EXCL (io), F11 P23 (io), F12 PC2/TIOCC0/TCLKA/~{WUE10} (io), F13 P26 (io), G1 P93/~{IRQ12} (io), G2 P50/FTXD (io), G3 P91/~{IRQ1} (io), G4 P95/~{IRQ14} (io), G10 PC4/TIOCA1/~{WUE12} (io), G11 PC0/TIOCA0/~{WUE8} (io), G12 PC5/TIOCB1/TCLKC/~{WUE13} (io), G13 PC1/TIOCB0/~{WUE9} (io), H1 MD2 (in), H2 P92/~{IRQ0} (io), H3 ~{ETRST} (in), H4 P94/~{IRQ13} (io), H11 PC6/TIOCA2/~{WUE14} (io), H12 P67/~{IRQ7}/~{KIN7} (io), H13 PC3/TIOCD0/TCLKB/~{WUE11} (io), J1 PE3/ETDO (io), J2 PH2/CIRI (io), J3 PE1/ETCK (io), J4 P90/~{IRQ2} (io), J10 P65/~{KIN5} (io), J11 P66/~{IRQ6}/~{KIN6} (io), J12 P63/~{KIN3} (io), J13 PC7/TIOCB2/TCLKD/~{WUE15} (io), K1 PE0/EXEXCL (io), K2 PE2/ETDI (io), K3 PA6/~{KIN14}/PS2CC (io), K4 PE4/ETMS (io), K5 PF0/~{IRQ8}/PWMU0A (io), K6 PG4/~{EXIRQ12}/EXSDAA (io), K7 PG3/~{EXIRQ11}/SCL2 (io), K8 PG2/~{EXIRQ10}/SDA2 (io), K9 PD6/AN14 (io), K10 PD2/AN10 (io), K11 P62/~{KIN2} (io), K12 P61/~{KIN1} (io), K13 P64/~{KIN4} (io), L1 PA5/~{KIN13}/PS2BD (io), L2 PA7/~{KIN15}/PS2CD (io), L4 PF6/PWMU4A (io), L5 PF3/~{IRQ11}/TMOX/TDPCKI0/TDPMCI0 (io), L6 PG7/~{EXIRQ15}/EXSCLB (io), L7 PD7/AN15 (io), L8 PD3/AN11 (io), L10 P72/AN2 (io), L11 AVREF (in), L12 P77/AN7 (io), L13 P60/~{KIN0} (io), M2 PA3/~{KIN11}/PS2AD (io), M3 PA2/~{KIN10}/PS2AC (io), M4 PF7/PWMU5A (io), M5 PF4/PWMU2A (io), M6 PF2/~{IRQ10}/TMOY/TDPCYI0 (io), M7 PG6/~{EXIRQ14}/EXSDAB (io), M8 PG0/~{EXIRQ8}/TMIX/TDPCYI1 (io), M9 PD4/AN12 (io), M10 PD0/AN8 (io), M11 P71/AN1 (io), M13 P75/AN5 (io), N1 PA1/~{KIN9}/PA2DD (io), N2 PA4/~{KIN12}/PS2BC (io), N3 PA0/~{KIN8}/PA2DC (io), N4 PF5/PWMU3A (io), N5 PF1/~{IRQ9}/PWMU1A (io), N6 PG5/~{EXIRQ13}/EXSCLA (io), N7 PG1/~{EXIRQ9}/TMIY/TDPCKI1/TDPMCI1 (io), N8 PD5/AN13 (io), N9 PD1/AN9 (io), N10 P70/AN0 (io), N11 P73/AN3 (io), N12 P74/AN4 (io), N13 P76/AN6 (io)
part B pins: B1 VCC (power), B11 VSS (power), C5 VSS (power), D2 VSS (power), E1 VCL, F10 VSS (power), H10 VCC (power), L3 VSS (power), L9 AVSS (power), M1 VCC (power), M12 AVCC (power)

## R4F2117RVTE
designator U?
Flash memory H8S/2100 Series, 2117R Group MCU, 160K ROM, 8K RAM, TFP-144V Pkg; Published: 28-Aug-2009; DatasheetVersion: Rev.2.00, Sep-2009; PackageVersion: Sep-2005; PackageReference: PTQP0144LC-A; Publisher: Altium Limited; PackageDescription: 144-Pin Plastic Thin Quad Flat Pack, 16 x 16 mm Body, 0.4 mm Pitch; Code_JEITA: P-TQFP144-16x16-0.40; ComponentLink1Description: Manufacturer Link; ComponentLink1URL: http://sg.renesas.com/fmwk.jsp?cnt=h8s_family_landing.jsp&fp=/products/mpumcu/h8s_family/; ComponentLink2Description: Datasheet; ComponentLink2URL: http://documentation.renesas.com/eng/products/mpumcu/rej09b0452_h8s2117rhm.pdf; ComponentLink3Description: Packaging Specification; ComponentLink3URL: http://sg.renesas.com/media/products/common_info/package/pdf/ic/code/ptqp0144lc_a.pdf
footprint PTQP0144LC-A_N (Thin QFP, 144-Leads, Body 16x16mm, Pitch 0.4mm, IPC Medium Density)
footprint PTQP0144LC-A_L (Thin QFP, 144-Leads, Body 16x16mm, Pitch 0.4mm, IPC High Density)
footprint PTQP0144LC-A_M (Thin QFP, 144-Leads, Body 16x16mm, Pitch 0.4mm, IPC Low Density)
part A pins: 2 P43/TMI1/SCK2/TCMCKI1/TCMMCI1 (io), 3 P44/TMO1/PWMU2B/TCMCYI2 (io), 4 P45/PWMU3B/TCMCKI2/TCMMCI2 (io), 5 P46/PWX0/PWMU4B/TCMCYI3 (io), 6 P47/PWX1/PWMU5B/TCMCKI3/TCMMCI3 (io), 8 ~{RES} (in), 9 MD1 (in), 10 PH0/~{EXIRQ6}/TDPCYI2 (io), 11 NMI (in), 12 PH1/~{EXIRQ7}/TDPCKI2/TDPMCI2 (io), 14 P52/SCL0 (io), 15 P51/FRXD (io), 16 P50/FTXD (io), 17 P97/SDA0/~{IRQ15} (io), 18 P96/F/EXCL (io), 19 P95/~{IRQ14} (io), 20 P94/~{IRQ13} (io), 21 P93/~{IRQ12} (io), 22 P92/~{IRQ0} (io), 23 P91/~{IRQ1} (io), 24 P90/~{IRQ2} (io), 25 MD2 (in), 26 PH2/CIRI (io), 27 ~{ETRST} (in), 28 PE4/ETMS (io), 29 PE3/ETDO (io), 30 PE2/ETDI (io), 31 PE1/ETCK (io), 32 PE0/EXEXCL (io), 33 PA7/~{KIN15}/PS2CD (io), 34 PA6/~{KIN14}/PS2CC (io), 35 PA5/~{KIN13}/PS2BD (io), 37 PA4/~{KIN12}/PS2BC (io), 38 PA3/~{KIN11}/PS2AD (io), 39 PA2/~{KIN10}/PS2AC (io), 40 PA1/~{KIN9}/PA2DD (io), 41 PA0/~{KIN8}/PA2DC (io), 43 PF7/PWMU5A (io), 44 PF6/PWMU4A (io), 45 PF5/PWMU3A (io), 46 PF4/PWMU2A (io), 47 PF3/~{IRQ11}/TMOX/TDPCKI0/TDPMCI0 (io), 48 PF2/~{IRQ10}/TMOY/TDPCYI0 (io), 49 PF1/~{IRQ9}/PWMU1A (io), 50 PF0/~{IRQ8}/PWMU0A (io), 51 PG7/~{EXIRQ15}/EXSCLB (io), 52 PG6/~{EXIRQ14}/EXSDAB (io), 53 PG5/~{EXIRQ13}/EXSCLA (io), 54 PG4/~{EXIRQ12}/EXSDAA (io), 55 PG3/~{EXIRQ11}/SCL2 (io), 56 PG2/~{EXIRQ10}/SDA2 (io), 57 PG1/~{EXIRQ9}/TMIY/TDPCKI1/TDPMCI1 (io), 58 PG0/~{EXIRQ8}/TMIX/TDPCYI1 (io), 59 PD7/AN15 (io), 60 PD6/AN14 (io), 61 PD5/AN13 (io), 62 PD4/AN12 (io), 63 PD3/AN11 (io), 64 PD2/AN10 (io), 65 PD1/AN9 (io), 66 PD0/AN8 (io), 68 P70/AN0 (io), 69 P71/AN1 (io), 70 P72/AN2 (io), 71 P73/AN3 (io), 72 P74/AN4 (io), 73 P75/AN5 (io), 74 P76/AN6 (io), 75 P77/AN7 (io), 77 AVREF (in), 78 P60/~{KIN0} (io), 79 P61/~{KIN1} (io), 80 P62/~{KIN2} (io), 81 P63/~{KIN3} (io), 82 P64/~{KIN4} (io), 83 P65/~{KIN5} (io), 84 P66/~{IRQ6}/~{KIN6} (io), 85 P67/~{IRQ7}/~{KIN7} (io), 87 PC7/TIOCB2/TCLKD/~{WUE15} (io), 88 PC6/TIOCA2/~{WUE14} (io), 89 PC5/TIOCB1/TCLKC/~{WUE13} (io), 90 PC4/TIOCA1/~{WUE12} (io), 91 PC3/TIOCD0/TCLKB/~{WUE11} (io), 92 PC2/TIOCC0/TCLKA/~{WUE10} (io), 93 PC1/TIOCB0/~{WUE9} (io), 94 PC0/TIOCA0/~{WUE8} (io), 96 P27 (io), 97 P26 (io), 98 P25 (io), 99 P24 (io), 100 P23 (io), 101 P22 (io), 102 P21 (io), 103 P20 (io), 104 P17 (io), 105 P16 (io), 106 P15 (io), 107 P14 (io), 108 P13 (io), 109 P12 (io), 110 P11 (io), 112 P10 (io), 113 PB7/~{RTS}/FSISS (io), 114 PB6/~{CTS}/FSICK (io), 115 PB5/~{DTR}/FSIDI (io), 116 PB4/~{DSR}/FSIDO (io), 117 PB3/~{DCD}/PWMU1B (io), 118 PB2/~{RI}/PWMU0B (io), 119 PB1/LSCI (io), 120 PB0/~{LSMI} (io), 121 P30/LAD0 (io), 122 P31/LAD1 (io), 123 P32/LAD2 (io), 124 P33/LAD3 (io), 125 P34/~{LFRAME} (io), 126 P35/~{LRESET} (io), 127 P36/LCLK (io), 128 P37/SERIRQ (io), 129 P80/~{PME} (io), 130 P81/GA20 (io), 131 P82/~{CLKRUN} (io), 132 P83/~{LPCPD} (io), 133 P84/~{IRQ3}/TXD1 (io), 134 P85/~{IRQ4}/RXD1 (io), 135 P86/~{IRQ5}/SCK1/SCL1 (io), 136 P40/TMI0/TXD2/TCMCYI0 (io), 137 P41/TMO0/RXD2/TCMCKI0/TCMMCI0 (io), 138 P42/SDA1/TCMCYI1 (io), 140 PH3 (io), 141 PH4 (io), 142 PH5 (io), 143 XTAL (in), 144 EXTAL (in)
part B pins: 1 VCC (power), 7 VSS (power), 13 VCL, 36 VCC (power), 42 VSS (power), 67 AVSS (power), 76 AVCC (power), 86 VCC (power), 95 VSS (power), 111 VSS (power), 139 VSS (power)

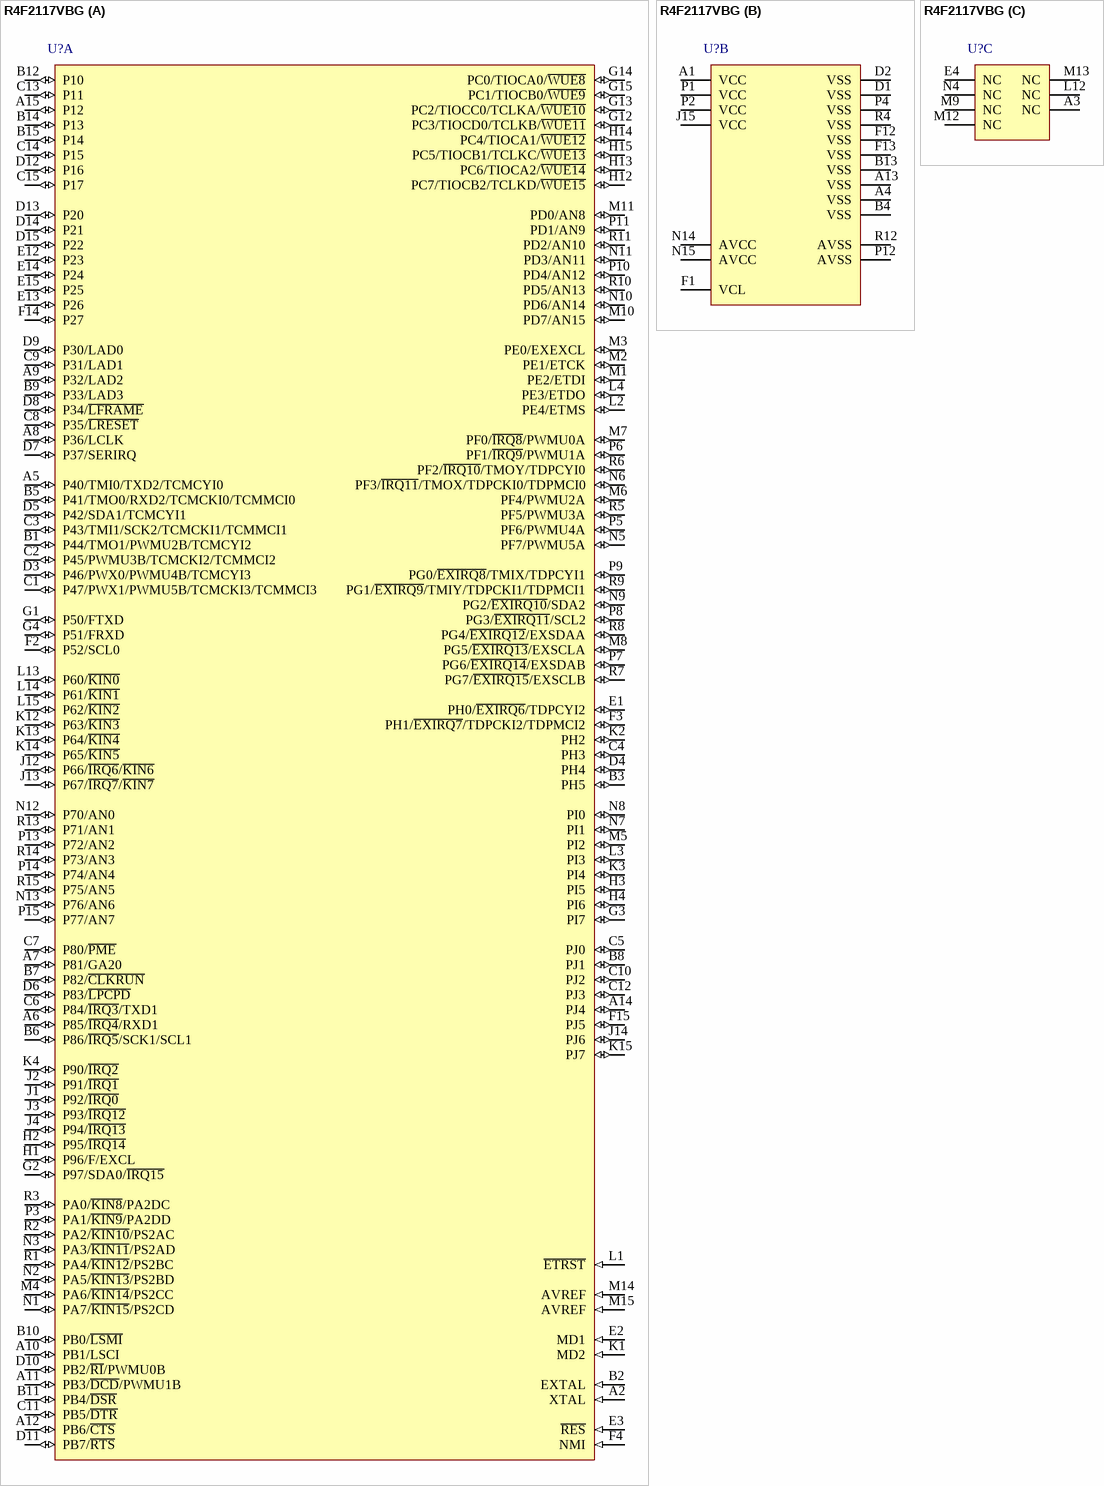
[diagram p220: symbol R4F2117VBG]

## R4F2117VBG
designator U?
Flash memory H8S/2100 Series, 2117 Group MCU, 160K ROM, 8K RAM, BP-176V Pkg; Published: 28-Aug-2009; DatasheetVersion: Rev.3.00, Sep-2009; PackageVersion: Apr-2006; PackageReference: PLBG0176GA-A; Publisher: Altium Limited; PackageDescription: 176-Ball Plastic Low Profile Fine-Pitch BGA, 13 x 13 mm Body, 0.8 mm Pitch; Code_JEITA: P-LFBGA176-13x13-0.80; ComponentLink1Description: Manufacturer Link; ComponentLink1URL: http://sg.renesas.com/fmwk.jsp?cnt=h8s_family_landing.jsp&fp=/products/mpumcu/h8s_family/; ComponentLink2Description: Datasheet; ComponentLink2URL: http://documentation.renesas.com/eng/products/mpumcu/rej09b0350_h8s2117hm.pdf; ComponentLink3Description: Packaging Specification; ComponentLink3URL: http://sg.renesas.com/media/products/common_info/package/pdf/ic/code/plbg0176ga_a.pdf
footprint PLBG0176GA-A (BGA, 176-Leads, Body 13x13mm, Pitch 0.8mm)
part A pins: A2 XTAL (in), A5 P40/TMI0/TXD2/TCMCYI0 (io), A6 P85/~{IRQ4}/RXD1 (io), A7 P81/GA20 (io), A8 P36/LCLK (io), A9 P32/LAD2 (io), A10 PB1/LSCI (io), A11 PB3/~{DCD}/PWMU1B (io), A12 PB6/~{CTS} (io), A14 PJ4 (io), A15 P12 (io), B1 P44/TMO1/PWMU2B/TCMCYI2 (io), B2 EXTAL (in), B3 PH5 (io), B5 P41/TMO0/RXD2/TCMCKI0/TCMMCI0 (io), B6 P86/~{IRQ5}/SCK1/SCL1 (io), B7 P82/~{CLKRUN} (io), B8 PJ1 (io), B9 P33/LAD3 (io), B10 PB0/~{LSMI} (io), B11 PB4/~{DSR} (io), B12 P10 (io), B14 P13 (io), B15 P14 (io), C1 P47/PWX1/PWMU5B/TCMCKI3/TCMMCI3 (io), C2 P45/PWMU3B/TCMCKI2/TCMMCI2 (io), C3 P43/TMI1/SCK2/TCMCKI1/TCMMCI1 (io), C4 PH3 (io), C5 PJ0 (io), C6 P84/~{IRQ3}/TXD1 (io), C7 P80/~{PME} (io), C8 P35/~{LRESET} (io), C9 P31/LAD1 (io), C10 PJ2 (io), C11 PB5/~{DTR} (io), C12 PJ3 (io), C13 P11 (io), C14 P15 (io), C15 P17 (io), D3 P46/PWX0/PWMU4B/TCMCYI3 (io), D4 PH4 (io), D5 P42/SDA1/TCMCYI1 (io), D6 P83/~{LPCPD} (io), D7 P37/SERIRQ (io), D8 P34/~{LFRAME} (io), D9 P30/LAD0 (io), D10 PB2/~{RI}/PWMU0B (io), D11 PB7/~{RTS} (io), D12 P16 (io), D13 P20 (io), D14 P21 (io), D15 P22 (io), E1 PH0/~{EXIRQ6}/TDPCYI2 (io), E2 MD1 (in), E3 ~{RES} (in), E12 P23 (io), E13 P26 (io), E14 P24 (io), E15 P25 (io), F2 P52/SCL0 (io), F3 PH1/~{EXIRQ7}/TDPCKI2/TDPMCI2 (io), F4 NMI (in), F14 P27 (io), F15 PJ5 (io), G1 P50/FTXD (io), G2 P97/SDA0/~{IRQ15} (io), G3 PI7 (io), G4 P51/FRXD (io), G12 PC3/TIOCD0/TCLKB/~{WUE11} (io), G13 PC2/TIOCC0/TCLKA/~{WUE10} (io), G14 PC0/TIOCA0/~{WUE8} (io), G15 PC1/TIOCB0/~{WUE9} (io), H1 P96/F/EXCL (io), H2 P95/~{IRQ14} (io), H3 PI5 (io), H4 PI6 (io), H12 PC7/TIOCB2/TCLKD/~{WUE15} (io), H13 PC6/TIOCA2/~{WUE14} (io), H14 PC4/TIOCA1/~{WUE12} (io), H15 PC5/TIOCB1/TCLKC/~{WUE13} (io), J1 P92/~{IRQ0} (io), J2 P91/~{IRQ1} (io), J3 P93/~{IRQ12} (io), J4 P94/~{IRQ13} (io), J12 P66/~{IRQ6}/~{KIN6} (io), J13 P67/~{IRQ7}/~{KIN7} (io), J14 PJ6 (io), K1 MD2 (in), K2 PH2 (io), K3 PI4 (io), K4 P90/~{IRQ2} (io), K12 P63/~{KIN3} (io), K13 P64/~{KIN4} (io), K14 P65/~{KIN5} (io), K15 PJ7 (io), L1 ~{ETRST} (in), L2 PE4/ETMS (io), L3 PI3 (io), L4 PE3/ETDO (io), L13 P60/~{KIN0} (io), L14 P61/~{KIN1} (io), L15 P62/~{KIN2} (io), M1 PE2/ETDI (io), M2 PE1/ETCK (io), M3 PE0/EXEXCL (io), M4 PA6/~{KIN14}/PS2CC (io), M5 PI2 (io), M6 PF4/PWMU2A (io), M7 PF0/~{IRQ8}/PWMU0A (io), M8 PG5/~{EXIRQ13}/EXSCLA (io), M10 PD7/AN15 (io), M11 PD0/AN8 (io), M14 AVREF (in), M15 AVREF (in), N1 PA7/~{KIN15}/PS2CD (io), N2 PA5/~{KIN13}/PS2BD (io), N3 PA3/~{KIN11}/PS2AD (io), N5 PF7/PWMU5A (io), N6 PF3/~{IRQ11}/TMOX/TDPCKI0/TDPMCI0 (io), N7 PI1 (io), N8 PI0 (io), N9 PG2/~{EXIRQ10}/SDA2 (io), N10 PD6/AN14 (io), N11 PD3/AN11 (io), N12 P70/AN0 (io), N13 P76/AN6 (io), P3 PA1/~{KIN9}/PA2DD (io), P5 PF6/PWMU4A (io), P6 PF1/~{IRQ9}/PWMU1A (io), P7 PG6/~{EXIRQ14}/EXSDAB (io), P8 PG3/~{EXIRQ11}/SCL2 (io), P9 PG0/~{EXIRQ8}/TMIX/TDPCYI1 (io), P10 PD4/AN12 (io), P11 PD1/AN9 (io), P13 P72/AN2 (io), P14 P74/AN4 (io), P15 P77/AN7 (io), R1 PA4/~{KIN12}/PS2BC (io), R2 PA2/~{KIN10}/PS2AC (io), R3 PA0/~{KIN8}/PA2DC (io), R5 PF5/PWMU3A (io), R6 PF2/~{IRQ10}/TMOY/TDPCYI0 (io), R7 PG7/~{EXIRQ15}/EXSCLB (io), R8 PG4/~{EXIRQ12}/EXSDAA (io), R9 PG1/~{EXIRQ9}/TMIY/TDPCKI1/TDPMCI1 (io), R10 PD5/AN13 (io), R11 PD2/AN10 (io), R13 P71/AN1 (io), R14 P73/AN3 (io), R15 P75/AN5 (io)
part B pins: A1 VCC (power), A4 VSS (power), A13 VSS (power), B4 VSS (power), B13 VSS (power), D1 VSS (power), D2 VSS (power), F1 VCL, F12 VSS (power), F13 VSS (power), J15 VCC (power), N14 AVCC (power), N15 AVCC (power), P1 VCC (power), P2 VCC (power), P4 VSS (power), P12 AVSS (power), R4 VSS (power), R12 AVSS (power)
part C pins: A3 NC, E4 NC, L12 NC, M9 NC, M12 NC, M13 NC, N4 NC

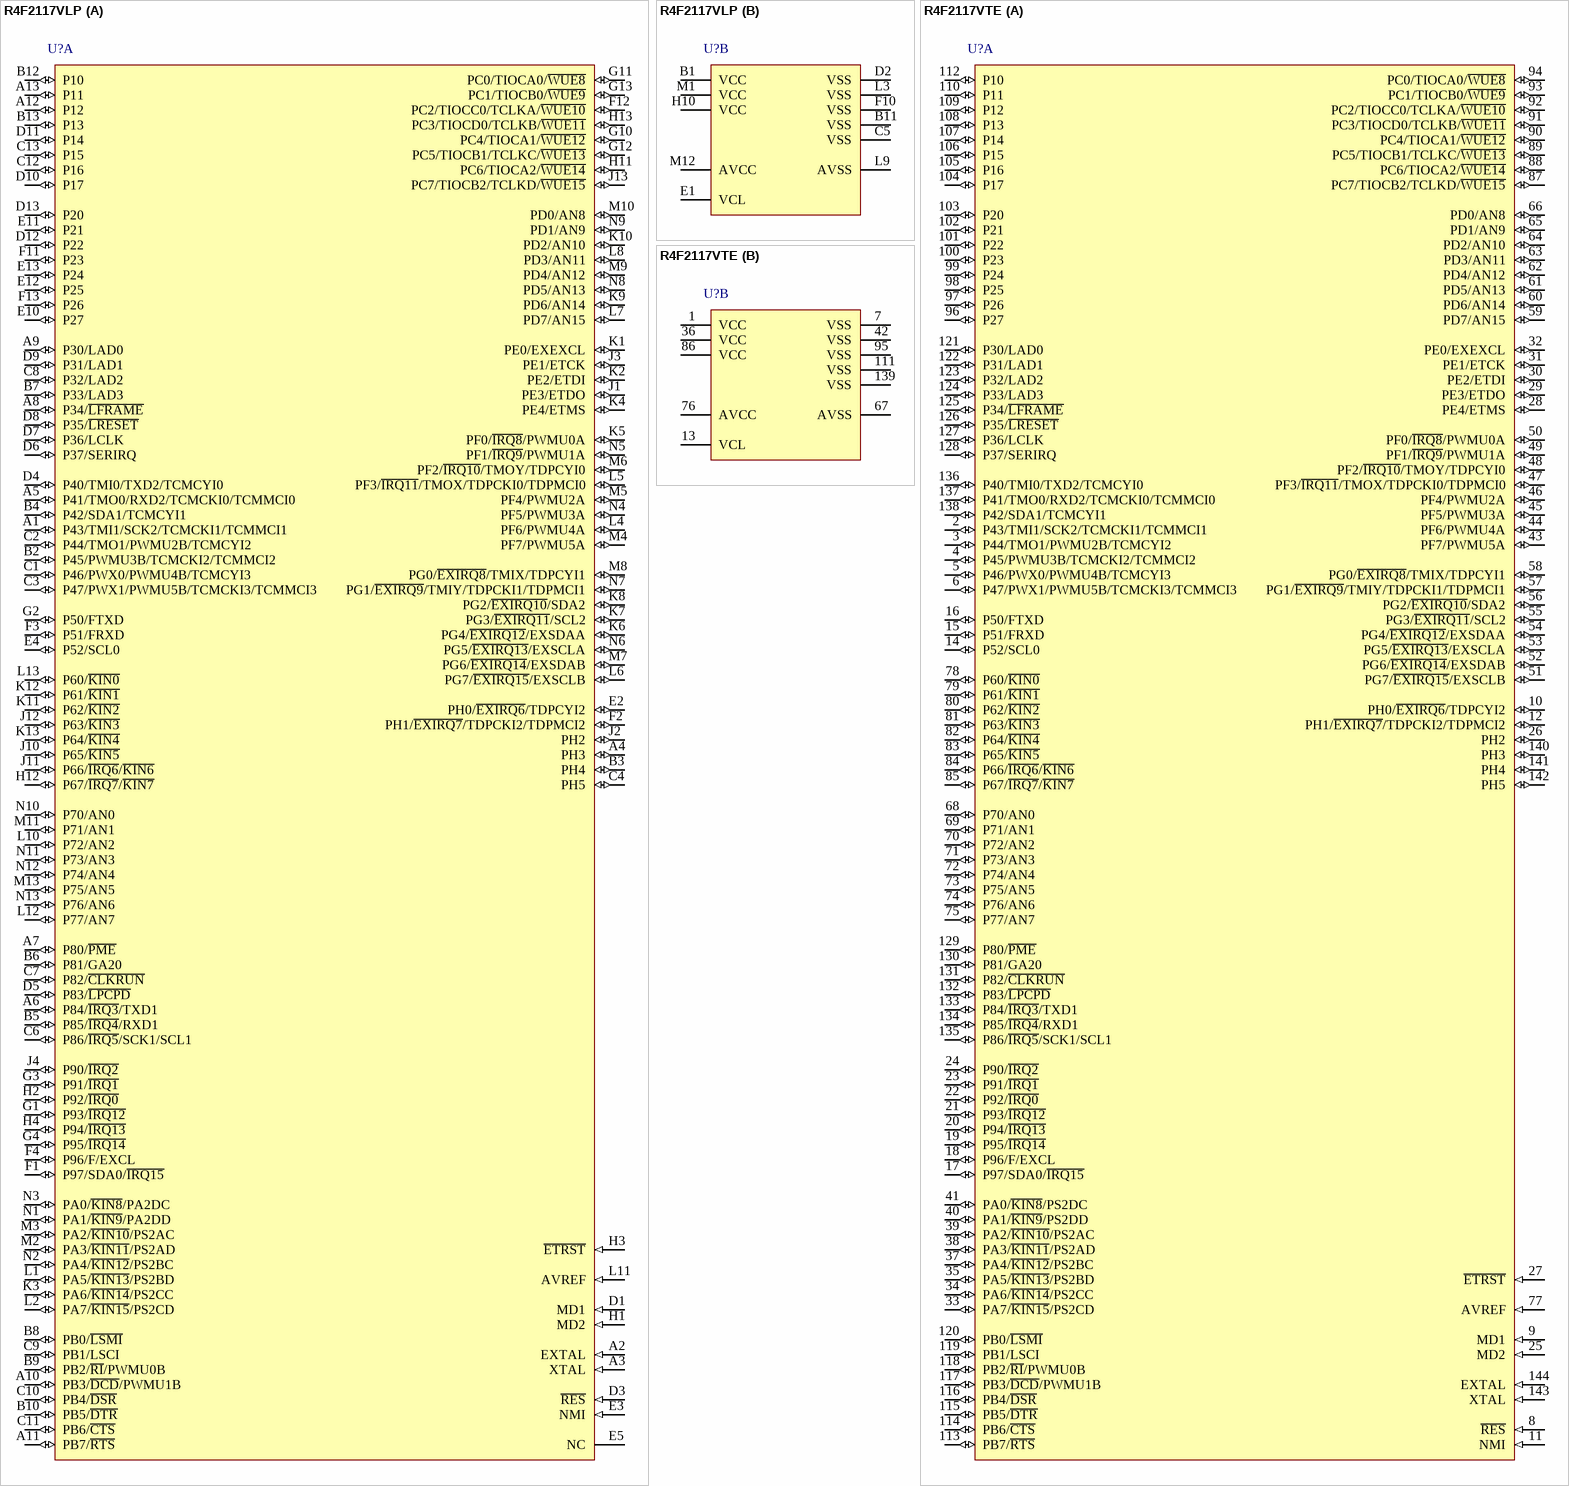
[diagram p221: symbols R4F2117VLP to R4F2117VTE]

## R4F2117VLP
designator U?
Flash memory H8S/2100 Series, 2117 Group MCU, 160K ROM, 8K RAM, TLP-145V Pkg; Published: 28-Aug-2009; DatasheetVersion: Rev.3.00, Sep-2009; PackageVersion: Jun-2006; PackageReference: PTLG0145JB-A; Publisher: Altium Limited; PackageDescription: 145-Ball Plastic Thin Fine-Pitch BGA, 9 x 9 mm Body, 0.65 mm Pitch; Code_JEITA: P-TFLGA145-9x9-0.65; ComponentLink1Description: Manufacturer Link; ComponentLink1URL: http://sg.renesas.com/fmwk.jsp?cnt=h8s_family_landing.jsp&fp=/products/mpumcu/h8s_family/; ComponentLink2Description: Datasheet; ComponentLink2URL: http://documentation.renesas.com/eng/products/mpumcu/rej09b0350_h8s2117hm.pdf; ComponentLink3Description: Packaging Specification; ComponentLink3URL: http://sg.renesas.com/media/products/common_info/package/pdf/ic/code/ptlg0145jb_a.pdf
footprint PTLG0145JB-A (BGA, 145-Leads, Body 9x9mm, Pitch 0.65mm)
part A pins: A1 P43/TMI1/SCK2/TCMCKI1/TCMMCI1 (io), A2 EXTAL (in), A3 XTAL (in), A4 PH3 (io), A5 P41/TMO0/RXD2/TCMCKI0/TCMMCI0 (io), A6 P84/~{IRQ3}/TXD1 (io), A7 P80/~{PME} (io), A8 P34/~{LFRAME} (io), A9 P30/LAD0 (io), A10 PB3/~{DCD}/PWMU1B (io), A11 PB7/~{RTS} (io), A12 P12 (io), A13 P11 (io), B2 P45/PWMU3B/TCMCKI2/TCMMCI2 (io), B3 PH4 (io), B4 P42/SDA1/TCMCYI1 (io), B5 P85/~{IRQ4}/RXD1 (io), B6 P81/GA20 (io), B7 P33/LAD3 (io), B8 PB0/~{LSMI} (io), B9 PB2/~{RI}/PWMU0B (io), B10 PB5/~{DTR} (io), B12 P10 (io), B13 P13 (io), C1 P46/PWX0/PWMU4B/TCMCYI3 (io), C2 P44/TMO1/PWMU2B/TCMCYI2 (io), C3 P47/PWX1/PWMU5B/TCMCKI3/TCMMCI3 (io), C4 PH5 (io), C6 P86/~{IRQ5}/SCK1/SCL1 (io), C7 P82/~{CLKRUN} (io), C8 P32/LAD2 (io), C9 PB1/LSCI (io), C10 PB4/~{DSR} (io), C11 PB6/~{CTS} (io), C12 P16 (io), C13 P15 (io), D1 MD1 (in), D3 ~{RES} (in), D4 P40/TMI0/TXD2/TCMCYI0 (io), D5 P83/~{LPCPD} (io), D6 P37/SERIRQ (io), D7 P36/LCLK (io), D8 P35/~{LRESET} (io), D9 P31/LAD1 (io), D10 P17 (io), D11 P14 (io), D12 P22 (io), D13 P20 (io), E2 PH0/~{EXIRQ6}/TDPCYI2 (io), E3 NMI (in), E4 P52/SCL0 (io), E5 NC, E10 P27 (io), E11 P21 (io), E12 P25 (io), E13 P24 (io), F1 P97/SDA0/~{IRQ15} (io), F2 PH1/~{EXIRQ7}/TDPCKI2/TDPMCI2 (io), F3 P51/FRXD (io), F4 P96/F/EXCL (io), F11 P23 (io), F12 PC2/TIOCC0/TCLKA/~{WUE10} (io), F13 P26 (io), G1 P93/~{IRQ12} (io), G2 P50/FTXD (io), G3 P91/~{IRQ1} (io), G4 P95/~{IRQ14} (io), G10 PC4/TIOCA1/~{WUE12} (io), G11 PC0/TIOCA0/~{WUE8} (io), G12 PC5/TIOCB1/TCLKC/~{WUE13} (io), G13 PC1/TIOCB0/~{WUE9} (io), H1 MD2 (in), H2 P92/~{IRQ0} (io), H3 ~{ETRST} (in), H4 P94/~{IRQ13} (io), H11 PC6/TIOCA2/~{WUE14} (io), H12 P67/~{IRQ7}/~{KIN7} (io), H13 PC3/TIOCD0/TCLKB/~{WUE11} (io), J1 PE3/ETDO (io), J2 PH2 (io), J3 PE1/ETCK (io), J4 P90/~{IRQ2} (io), J10 P65/~{KIN5} (io), J11 P66/~{IRQ6}/~{KIN6} (io), J12 P63/~{KIN3} (io), J13 PC7/TIOCB2/TCLKD/~{WUE15} (io), K1 PE0/EXEXCL (io), K2 PE2/ETDI (io), K3 PA6/~{KIN14}/PS2CC (io), K4 PE4/ETMS (io), K5 PF0/~{IRQ8}/PWMU0A (io), K6 PG4/~{EXIRQ12}/EXSDAA (io), K7 PG3/~{EXIRQ11}/SCL2 (io), K8 PG2/~{EXIRQ10}/SDA2 (io), K9 PD6/AN14 (io), K10 PD2/AN10 (io), K11 P62/~{KIN2} (io), K12 P61/~{KIN1} (io), K13 P64/~{KIN4} (io), L1 PA5/~{KIN13}/PS2BD (io), L2 PA7/~{KIN15}/PS2CD (io), L4 PF6/PWMU4A (io), L5 PF3/~{IRQ11}/TMOX/TDPCKI0/TDPMCI0 (io), L6 PG7/~{EXIRQ15}/EXSCLB (io), L7 PD7/AN15 (io), L8 PD3/AN11 (io), L10 P72/AN2 (io), L11 AVREF (in), L12 P77/AN7 (io), L13 P60/~{KIN0} (io), M2 PA3/~{KIN11}/PS2AD (io), M3 PA2/~{KIN10}/PS2AC (io), M4 PF7/PWMU5A (io), M5 PF4/PWMU2A (io), M6 PF2/~{IRQ10}/TMOY/TDPCYI0 (io), M7 PG6/~{EXIRQ14}/EXSDAB (io), M8 PG0/~{EXIRQ8}/TMIX/TDPCYI1 (io), M9 PD4/AN12 (io), M10 PD0/AN8 (io), M11 P71/AN1 (io), M13 P75/AN5 (io), N1 PA1/~{KIN9}/PA2DD (io), N2 PA4/~{KIN12}/PS2BC (io), N3 PA0/~{KIN8}/PA2DC (io), N4 PF5/PWMU3A (io), N5 PF1/~{IRQ9}/PWMU1A (io), N6 PG5/~{EXIRQ13}/EXSCLA (io), N7 PG1/~{EXIRQ9}/TMIY/TDPCKI1/TDPMCI1 (io), N8 PD5/AN13 (io), N9 PD1/AN9 (io), N10 P70/AN0 (io), N11 P73/AN3 (io), N12 P74/AN4 (io), N13 P76/AN6 (io)
part B pins: B1 VCC (power), B11 VSS (power), C5 VSS (power), D2 VSS (power), E1 VCL, F10 VSS (power), H10 VCC (power), L3 VSS (power), L9 AVSS (power), M1 VCC (power), M12 AVCC (power)

## R4F2117VTE
designator U?
Flash memory H8S/2100 Series, 2117 Group MCU, 160K ROM, 8K RAM, TFP-144V Pkg; Published: 28-Aug-2009; DatasheetVersion: Rev.3.00, Sep-2009; PackageVersion: Sep-2005; PackageReference: PTQP0144LC-A; Publisher: Altium Limited; PackageDescription: 144-Pin Plastic Thin Quad Flat Pack, 16 x 16 mm Body, 0.4 mm Pitch; Code_JEITA: P-TQFP144-16x16-0.40; ComponentLink1Description: Manufacturer Link; ComponentLink1URL: http://sg.renesas.com/fmwk.jsp?cnt=h8s_family_landing.jsp&fp=/products/mpumcu/h8s_family/; ComponentLink2Description: Datasheet; ComponentLink2URL: http://documentation.renesas.com/eng/products/mpumcu/rej09b0350_h8s2117hm.pdf; ComponentLink3Description: Packaging Specification; ComponentLink3URL: http://sg.renesas.com/media/products/common_info/package/pdf/ic/code/ptqp0144lc_a.pdf
footprint PTQP0144LC-A_N (Thin QFP, 144-Leads, Body 16x16mm, Pitch 0.4mm, IPC Medium Density)
footprint PTQP0144LC-A_L (Thin QFP, 144-Leads, Body 16x16mm, Pitch 0.4mm, IPC High Density)
footprint PTQP0144LC-A_M (Thin QFP, 144-Leads, Body 16x16mm, Pitch 0.4mm, IPC Low Density)
part A pins: 2 P43/TMI1/SCK2/TCMCKI1/TCMMCI1 (io), 3 P44/TMO1/PWMU2B/TCMCYI2 (io), 4 P45/PWMU3B/TCMCKI2/TCMMCI2 (io), 5 P46/PWX0/PWMU4B/TCMCYI3 (io), 6 P47/PWX1/PWMU5B/TCMCKI3/TCMMCI3 (io), 8 ~{RES} (in), 9 MD1 (in), 10 PH0/~{EXIRQ6}/TDPCYI2 (io), 11 NMI (in), 12 PH1/~{EXIRQ7}/TDPCKI2/TDPMCI2 (io), 14 P52/SCL0 (io), 15 P51/FRXD (io), 16 P50/FTXD (io), 17 P97/SDA0/~{IRQ15} (io), 18 P96/F/EXCL (io), 19 P95/~{IRQ14} (io), 20 P94/~{IRQ13} (io), 21 P93/~{IRQ12} (io), 22 P92/~{IRQ0} (io), 23 P91/~{IRQ1} (io), 24 P90/~{IRQ2} (io), 25 MD2 (in), 26 PH2 (io), 27 ~{ETRST} (in), 28 PE4/ETMS (io), 29 PE3/ETDO (io), 30 PE2/ETDI (io), 31 PE1/ETCK (io), 32 PE0/EXEXCL (io), 33 PA7/~{KIN15}/PS2CD (io), 34 PA6/~{KIN14}/PS2CC (io), 35 PA5/~{KIN13}/PS2BD (io), 37 PA4/~{KIN12}/PS2BC (io), 38 PA3/~{KIN11}/PS2AD (io), 39 PA2/~{KIN10}/PS2AC (io), 40 PA1/~{KIN9}/PS2DD (io), 41 PA0/~{KIN8}/PS2DC (io), 43 PF7/PWMU5A (io), 44 PF6/PWMU4A (io), 45 PF5/PWMU3A (io), 46 PF4/PWMU2A (io), 47 PF3/~{IRQ11}/TMOX/TDPCKI0/TDPMCI0 (io), 48 PF2/~{IRQ10}/TMOY/TDPCYI0 (io), 49 PF1/~{IRQ9}/PWMU1A (io), 50 PF0/~{IRQ8}/PWMU0A (io), 51 PG7/~{EXIRQ15}/EXSCLB (io), 52 PG6/~{EXIRQ14}/EXSDAB (io), 53 PG5/~{EXIRQ13}/EXSCLA (io), 54 PG4/~{EXIRQ12}/EXSDAA (io), 55 PG3/~{EXIRQ11}/SCL2 (io), 56 PG2/~{EXIRQ10}/SDA2 (io), 57 PG1/~{EXIRQ9}/TMIY/TDPCKI1/TDPMCI1 (io), 58 PG0/~{EXIRQ8}/TMIX/TDPCYI1 (io), 59 PD7/AN15 (io), 60 PD6/AN14 (io), 61 PD5/AN13 (io), 62 PD4/AN12 (io), 63 PD3/AN11 (io), 64 PD2/AN10 (io), 65 PD1/AN9 (io), 66 PD0/AN8 (io), 68 P70/AN0 (io), 69 P71/AN1 (io), 70 P72/AN2 (io), 71 P73/AN3 (io), 72 P74/AN4 (io), 73 P75/AN5 (io), 74 P76/AN6 (io), 75 P77/AN7 (io), 77 AVREF (in), 78 P60/~{KIN0} (io), 79 P61/~{KIN1} (io), 80 P62/~{KIN2} (io), 81 P63/~{KIN3} (io), 82 P64/~{KIN4} (io), 83 P65/~{KIN5} (io), 84 P66/~{IRQ6}/~{KIN6} (io), 85 P67/~{IRQ7}/~{KIN7} (io), 87 PC7/TIOCB2/TCLKD/~{WUE15} (io), 88 PC6/TIOCA2/~{WUE14} (io), 89 PC5/TIOCB1/TCLKC/~{WUE13} (io), 90 PC4/TIOCA1/~{WUE12} (io), 91 PC3/TIOCD0/TCLKB/~{WUE11} (io), 92 PC2/TIOCC0/TCLKA/~{WUE10} (io), 93 PC1/TIOCB0/~{WUE9} (io), 94 PC0/TIOCA0/~{WUE8} (io), 96 P27 (io), 97 P26 (io), 98 P25 (io), 99 P24 (io), 100 P23 (io), 101 P22 (io), 102 P21 (io), 103 P20 (io), 104 P17 (io), 105 P16 (io), 106 P15 (io), 107 P14 (io), 108 P13 (io), 109 P12 (io), 110 P11 (io), 112 P10 (io), 113 PB7/~{RTS} (io), 114 PB6/~{CTS} (io), 115 PB5/~{DTR} (io), 116 PB4/~{DSR} (io), 117 PB3/~{DCD}/PWMU1B (io), 118 PB2/~{RI}/PWMU0B (io), 119 PB1/LSCI (io), 120 PB0/~{LSMI} (io), 121 P30/LAD0 (io), 122 P31/LAD1 (io), 123 P32/LAD2 (io), 124 P33/LAD3 (io), 125 P34/~{LFRAME} (io), 126 P35/~{LRESET} (io), 127 P36/LCLK (io), 128 P37/SERIRQ (io), 129 P80/~{PME} (io), 130 P81/GA20 (io), 131 P82/~{CLKRUN} (io), 132 P83/~{LPCPD} (io), 133 P84/~{IRQ3}/TXD1 (io), 134 P85/~{IRQ4}/RXD1 (io), 135 P86/~{IRQ5}/SCK1/SCL1 (io), 136 P40/TMI0/TXD2/TCMCYI0 (io), 137 P41/TMO0/RXD2/TCMCKI0/TCMMCI0 (io), 138 P42/SDA1/TCMCYI1 (io), 140 PH3 (io), 141 PH4 (io), 142 PH5 (io), 143 XTAL (in), 144 EXTAL (in)
part B pins: 1 VCC (power), 7 VSS (power), 13 VCL, 36 VCC (power), 42 VSS (power), 67 AVSS (power), 76 AVCC (power), 86 VCC (power), 95 VSS (power), 111 VSS (power), 139 VSS (power)

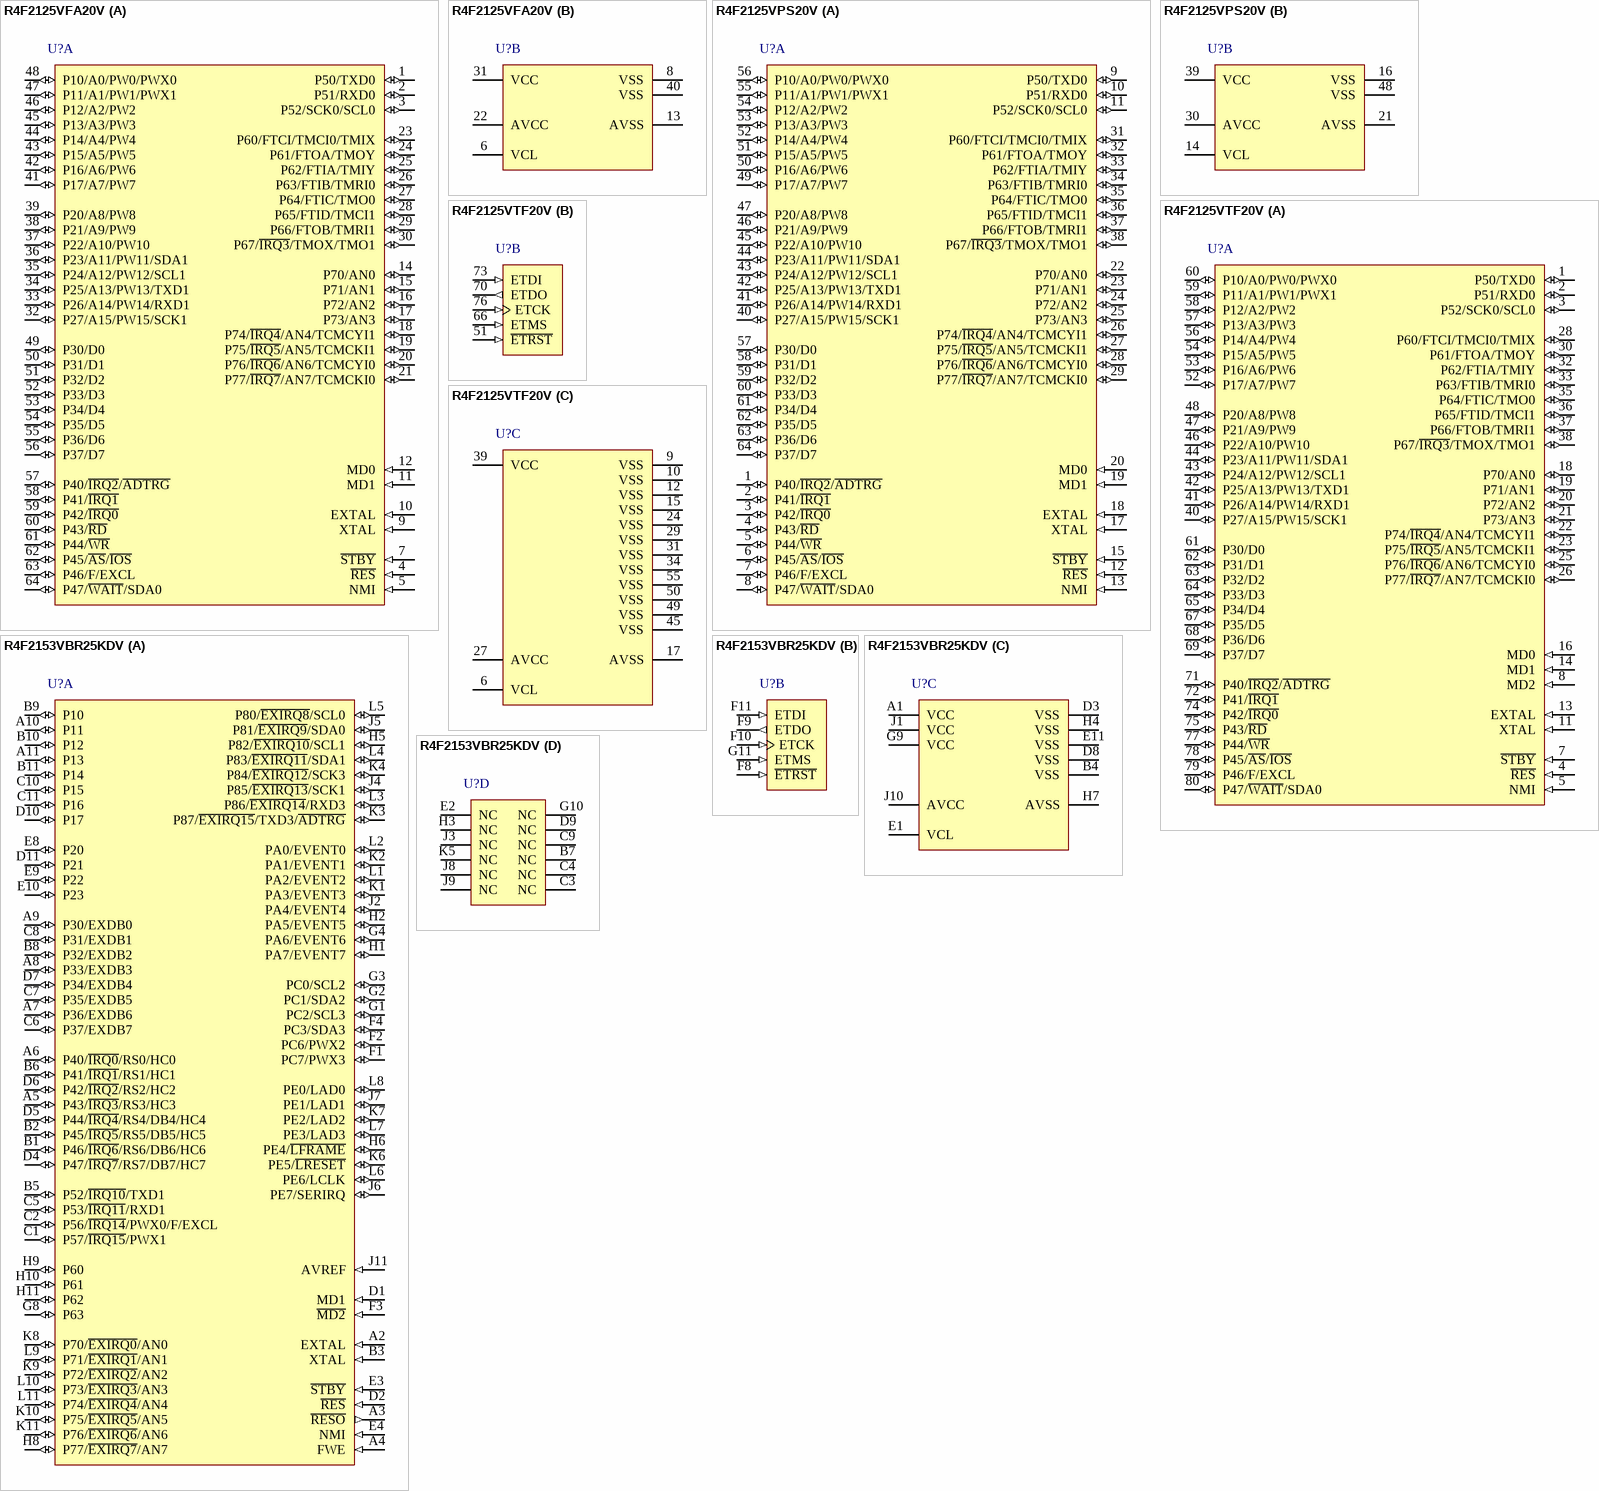
[diagram p222: symbols R4F2125VFA20V to R4F2153VBR25KDV]

## R4F2125VFA20V
designator U?
Flash memory H8S/2100 Series, 2125 Group MCU, 512K ROM, 8K RAM, FP-64A Pkg; Published: 28-Aug-2009; DatasheetVersion: Rev.1.00, Sep-2006; PackageVersion: Sep-2005; PackageReference: PRQP0064GB-A; Publisher: Altium Limited; PackageDescription: 64-Pin Plastic Quad Flat Pack, 14 x 14 x 2.7 mm Body, 0.8 mm Pitch; Code_JEITA: P-QFP64-14x14-0.80; ComponentLink1Description: Manufacturer Link; ComponentLink1URL: http://sg.renesas.com/fmwk.jsp?cnt=h8s_family_landing.jsp&fp=/products/mpumcu/h8s_family/; ComponentLink2Description: Datasheet; ComponentLink2URL: http://documentation.renesas.com/eng/products/mpumcu/rej09b0310_h8s2125hm.pdf; ComponentLink3Description: Packaging Specification; ComponentLink3URL: http://sg.renesas.com/media/products/common_info/package/pdf/ic/code/prqp0064gb_a.pdf
footprint PRQP0064GB-A_N (QFP, 64-Leads, Body 14x14mm, Pitch 0.8mm, IPC Medium Density)
footprint PRQP0064GB-A_L (QFP, 64-Leads, Body 14x14mm, Pitch 0.8mm, IPC High Density)
footprint PRQP0064GB-A_M (QFP, 64-Leads, Body 14x14mm, Pitch 0.8mm, IPC Low Density)
part A pins: 1 P50/TXD0 (io), 2 P51/RXD0 (io), 3 P52/SCK0/SCL0 (io), 4 ~{RES} (in), 5 NMI (in), 7 ~{STBY} (in), 9 XTAL (in), 10 EXTAL (in), 11 MD1 (in), 12 MD0 (in), 14 P70/AN0 (io), 15 P71/AN1 (io), 16 P72/AN2 (io), 17 P73/AN3 (io), 18 P74/~{IRQ4}/AN4/TCMCYI1 (io), 19 P75/~{IRQ5}/AN5/TCMCKI1 (io), 20 P76/~{IRQ6}/AN6/TCMCYI0 (io), 21 P77/~{IRQ7}/AN7/TCMCKI0 (io), 23 P60/FTCI/TMCI0/TMIX (io), 24 P61/FTOA/TMOY (io), 25 P62/FTIA/TMIY (io), 26 P63/FTIB/TMRI0 (io), 27 P64/FTIC/TMO0 (io), 28 P65/FTID/TMCI1 (io), 29 P66/FTOB/TMRI1 (io), 30 P67/~{IRQ3}/TMOX/TMO1 (io), 32 P27/A15/PW15/SCK1 (io), 33 P26/A14/PW14/RXD1 (io), 34 P25/A13/PW13/TXD1 (io), 35 P24/A12/PW12/SCL1 (io), 36 P23/A11/PW11/SDA1 (io), 37 P22/A10/PW10 (io), 38 P21/A9/PW9 (io), 39 P20/A8/PW8 (io), 41 P17/A7/PW7 (io), 42 P16/A6/PW6 (io), 43 P15/A5/PW5 (io), 44 P14/A4/PW4 (io), 45 P13/A3/PW3 (io), 46 P12/A2/PW2 (io), 47 P11/A1/PW1/PWX1 (io), 48 P10/A0/PW0/PWX0 (io), 49 P30/D0 (io), 50 P31/D1 (io), 51 P32/D2 (io), 52 P33/D3 (io), 53 P34/D4 (io), 54 P35/D5 (io), 55 P36/D6 (io), 56 P37/D7 (io), 57 P40/~{IRQ2}/~{ADTRG} (io), 58 P41/~{IRQ1} (io), 59 P42/~{IRQ0} (io), 60 P43/~{RD} (io), 61 P44/~{WR} (io), 62 P45/~{AS}/~{IOS} (io), 63 P46/F/EXCL (io), 64 P47/~{WAIT}/SDA0 (io)
part B pins: 6 VCL, 8 VSS (power), 13 AVSS (power), 22 AVCC (power), 31 VCC (power), 40 VSS (power)

## R4F2125VPS20V
designator U?
Flash memory H8S/2100 Series, 2125 Group MCU, 512K ROM, 8K RAM, DP-64S Pkg; Published: 28-Aug-2009; DatasheetVersion: Rev.1.00, Sep-2006; PackageVersion: Sep-2005; PackageReference: PRDP0064BB-A; Publisher: Altium Limited; PackageDescription: 64-Pin Plastic Shrink DIP, 57.6 x 17 mm Body, 19.05 mm Row Spacing , 1.778 mm Pitch; Code_JEITA: P-SDIP64-17x57.6-1.78; ComponentLink1Description: Manufacturer Link; ComponentLink1URL: http://sg.renesas.com/fmwk.jsp?cnt=h8s_family_landing.jsp&fp=/products/mpumcu/h8s_family/; ComponentLink2Description: Datasheet; ComponentLink2URL: http://documentation.renesas.com/eng/products/mpumcu/rej09b0310_h8s2125hm.pdf; ComponentLink3Description: Packaging Specification; ComponentLink3URL: http://sg.renesas.com/media/products/common_info/package/pdf/ic/code/prdp0064bb_a.pdf
footprint PRDP0064BB-A (DIP, 64-Leads, Row Spacing 19.05mm, Pitch 1.778mm, Body 58.19x17.05mm)
part A pins: 1 P40/~{IRQ2}/~{ADTRG} (io), 2 P41/~{IRQ1} (io), 3 P42/~{IRQ0} (io), 4 P43/~{RD} (io), 5 P44/~{WR} (io), 6 P45/~{AS}/~{IOS} (io), 7 P46/F/EXCL (io), 8 P47/~{WAIT}/SDA0 (io), 9 P50/TXD0 (io), 10 P51/RXD0 (io), 11 P52/SCK0/SCL0 (io), 12 ~{RES} (in), 13 NMI (in), 15 ~{STBY} (in), 17 XTAL (in), 18 EXTAL (in), 19 MD1 (in), 20 MD0 (in), 22 P70/AN0 (io), 23 P71/AN1 (io), 24 P72/AN2 (io), 25 P73/AN3 (io), 26 P74/~{IRQ4}/AN4/TCMCYI1 (io), 27 P75/~{IRQ5}/AN5/TCMCKI1 (io), 28 P76/~{IRQ6}/AN6/TCMCYI0 (io), 29 P77/~{IRQ7}/AN7/TCMCKI0 (io), 31 P60/FTCI/TMCI0/TMIX (io), 32 P61/FTOA/TMOY (io), 33 P62/FTIA/TMIY (io), 34 P63/FTIB/TMRI0 (io), 35 P64/FTIC/TMO0 (io), 36 P65/FTID/TMCI1 (io), 37 P66/FTOB/TMRI1 (io), 38 P67/~{IRQ3}/TMOX/TMO1 (io), 40 P27/A15/PW15/SCK1 (io), 41 P26/A14/PW14/RXD1 (io), 42 P25/A13/PW13/TXD1 (io), 43 P24/A12/PW12/SCL1 (io), 44 P23/A11/PW11/SDA1 (io), 45 P22/A10/PW10 (io), 46 P21/A9/PW9 (io), 47 P20/A8/PW8 (io), 49 P17/A7/PW7 (io), 50 P16/A6/PW6 (io), 51 P15/A5/PW5 (io), 52 P14/A4/PW4 (io), 53 P13/A3/PW3 (io), 54 P12/A2/PW2 (io), 55 P11/A1/PW1/PWX1 (io), 56 P10/A0/PW0/PWX0 (io), 57 P30/D0 (io), 58 P31/D1 (io), 59 P32/D2 (io), 60 P33/D3 (io), 61 P34/D4 (io), 62 P35/D5 (io), 63 P36/D6 (io), 64 P37/D7 (io)
part B pins: 14 VCL, 16 VSS (power), 21 AVSS (power), 30 AVCC (power), 39 VCC (power), 48 VSS (power)